# Altium schematic symbol library MCU_ST_STM32L4.SchLib: 320 symbols (part 3 of 9)
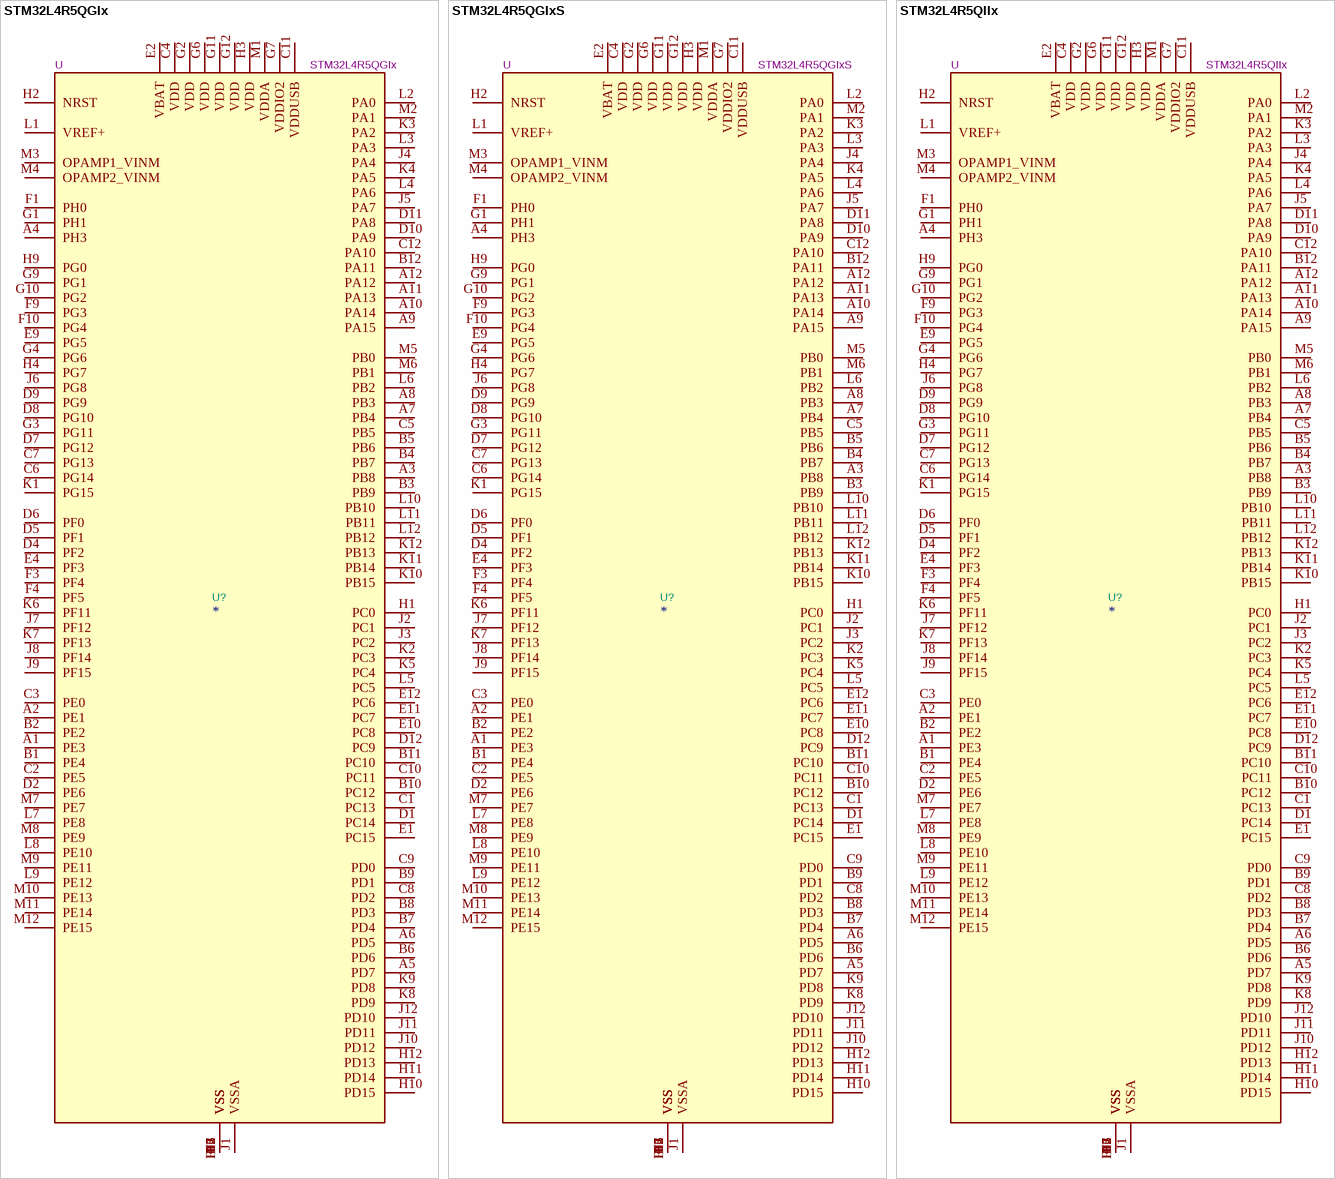
[diagram p65: symbols STM32L4R5QGIx to STM32L4R5QIIx]

## STM32L4R5QGIxS
designator U?  value STM32L4R5QGIxS  Reference: U
STMicroelectronics Arm Cortex-M4 MCU, 1024KB flash, 640KB RAM, 120 MHz, 1.71-3.6V, 110 GPIO, UFBGA132; ki_keywords: Arm Cortex-M4 STM32L4+ STM32L4R5/S5; ki_fp_filters: UFBGA*7x7mm*Layout12x12*P0.5mm*; Footprint: Package_BGA:UFBGA-132_7x7mm_Layout12x12_P0.5mm; Datasheet: https://www.st.com/resource/en/datasheet/stm32l4r5qg.pdf; Description_: STMicroelectronics Arm Cortex-M4 MCU, 1024KB flash, 640KB RAM, 120 MHz, 1.71-3.6V, 110 GPIO, UFBGA132
pins: A1 PE3, A2 PE1, A3 PB8, A4 PH3, A5 PD7, A6 PD5, A7 PB4, A8 PB3, A9 PA15, A10 PA14, A11 PA13, A12 PA12, B1 PE4, B2 PE2, B3 PB9, B4 PB7, B5 PB6, B6 PD6, B7 PD4, B8 PD3, B9 PD1, B10 PC12, B11 PC10, B12 PA11, C1 PC13, C2 PE5, C3 PE0, C4 VDD, C5 PB5, C6 PG14, C7 PG13, C8 PD2, C9 PD0, C10 PC11, C11 VDDUSB, C12 PA10, D1 PC14, D2 PE6, D3 VSS, D4 PF2, D5 PF1, D6 PF0, D7 PG12, D8 PG10, D9 PG9, D10 PA9, D11 PA8, D12 PC9, E1 PC15, E2 VBAT, E3 VSS, E4 PF3, E9 PG5, E10 PC8, E11 PC7, E12 PC6, F1 PH0, F2 VSS, F3 PF4, F4 PF5, F6 VSS, F7 VSS, F9 PG3, F10 PG4, F11 VSS, F12 VSS, G1 PH1, G2 VDD, G3 PG11, G4 PG6, G6 VDD, G7 VDDIO2, G9 PG1, G10 PG2, G11 VDD, G12 VDD, H1 PC0, H2 NRST, H3 VDD, H4 PG7, H9 PG0, H10 PD15, H11 PD14, H12 PD13, J1 VSSA, J2 PC1, J3 PC2, J4 PA4, J5 PA7, J6 PG8, J7 PF12, J8 PF14, J9 PF15, J10 PD12, J11 PD11, J12 PD10, K1 PG15, K2 PC3, K3 PA2, K4 PA5, K5 PC4, K6 PF11, K7 PF13, K8 PD9, K9 PD8, K10 PB15, K11 PB14, K12 PB13, L1 VREF+, L2 PA0, L3 PA3, L4 PA6, L5 PC5, L6 PB2, L7 PE8, L8 PE10, L9 PE12, L10 PB10, L11 PB11, L12 PB12, M1 VDDA, M2 PA1, M3 OPAMP1_VINM, M4 OPAMP2_VINM, M5 PB0, M6 PB1, M7 PE7, M8 PE9, M9 PE11, M10 PE13, M11 PE14, M12 PE15

## STM32L4R5QIIx
designator U?  value STM32L4R5QIIx  Reference: U
STMicroelectronics Arm Cortex-M4 MCU, 2048KB flash, 640KB RAM, 120 MHz, 1.71-3.6V, 110 GPIO, UFBGA132; ki_keywords: Arm Cortex-M4 STM32L4+ STM32L4R5/S5; ki_fp_filters: UFBGA*7x7mm*Layout12x12*P0.5mm*; Footprint: Package_BGA:UFBGA-132_7x7mm_Layout12x12_P0.5mm; Datasheet: https://www.st.com/resource/en/datasheet/stm32l4r5qi.pdf; Description_: STMicroelectronics Arm Cortex-M4 MCU, 2048KB flash, 640KB RAM, 120 MHz, 1.71-3.6V, 110 GPIO, UFBGA132
pins: A1 PE3, A2 PE1, A3 PB8, A4 PH3, A5 PD7, A6 PD5, A7 PB4, A8 PB3, A9 PA15, A10 PA14, A11 PA13, A12 PA12, B1 PE4, B2 PE2, B3 PB9, B4 PB7, B5 PB6, B6 PD6, B7 PD4, B8 PD3, B9 PD1, B10 PC12, B11 PC10, B12 PA11, C1 PC13, C2 PE5, C3 PE0, C4 VDD, C5 PB5, C6 PG14, C7 PG13, C8 PD2, C9 PD0, C10 PC11, C11 VDDUSB, C12 PA10, D1 PC14, D2 PE6, D3 VSS, D4 PF2, D5 PF1, D6 PF0, D7 PG12, D8 PG10, D9 PG9, D10 PA9, D11 PA8, D12 PC9, E1 PC15, E2 VBAT, E3 VSS, E4 PF3, E9 PG5, E10 PC8, E11 PC7, E12 PC6, F1 PH0, F2 VSS, F3 PF4, F4 PF5, F6 VSS, F7 VSS, F9 PG3, F10 PG4, F11 VSS, F12 VSS, G1 PH1, G2 VDD, G3 PG11, G4 PG6, G6 VDD, G7 VDDIO2, G9 PG1, G10 PG2, G11 VDD, G12 VDD, H1 PC0, H2 NRST, H3 VDD, H4 PG7, H9 PG0, H10 PD15, H11 PD14, H12 PD13, J1 VSSA, J2 PC1, J3 PC2, J4 PA4, J5 PA7, J6 PG8, J7 PF12, J8 PF14, J9 PF15, J10 PD12, J11 PD11, J12 PD10, K1 PG15, K2 PC3, K3 PA2, K4 PA5, K5 PC4, K6 PF11, K7 PF13, K8 PD9, K9 PD8, K10 PB15, K11 PB14, K12 PB13, L1 VREF+, L2 PA0, L3 PA3, L4 PA6, L5 PC5, L6 PB2, L7 PE8, L8 PE10, L9 PE12, L10 PB10, L11 PB11, L12 PB12, M1 VDDA, M2 PA1, M3 OPAMP1_VINM, M4 OPAMP2_VINM, M5 PB0, M6 PB1, M7 PE7, M8 PE9, M9 PE11, M10 PE13, M11 PE14, M12 PE15

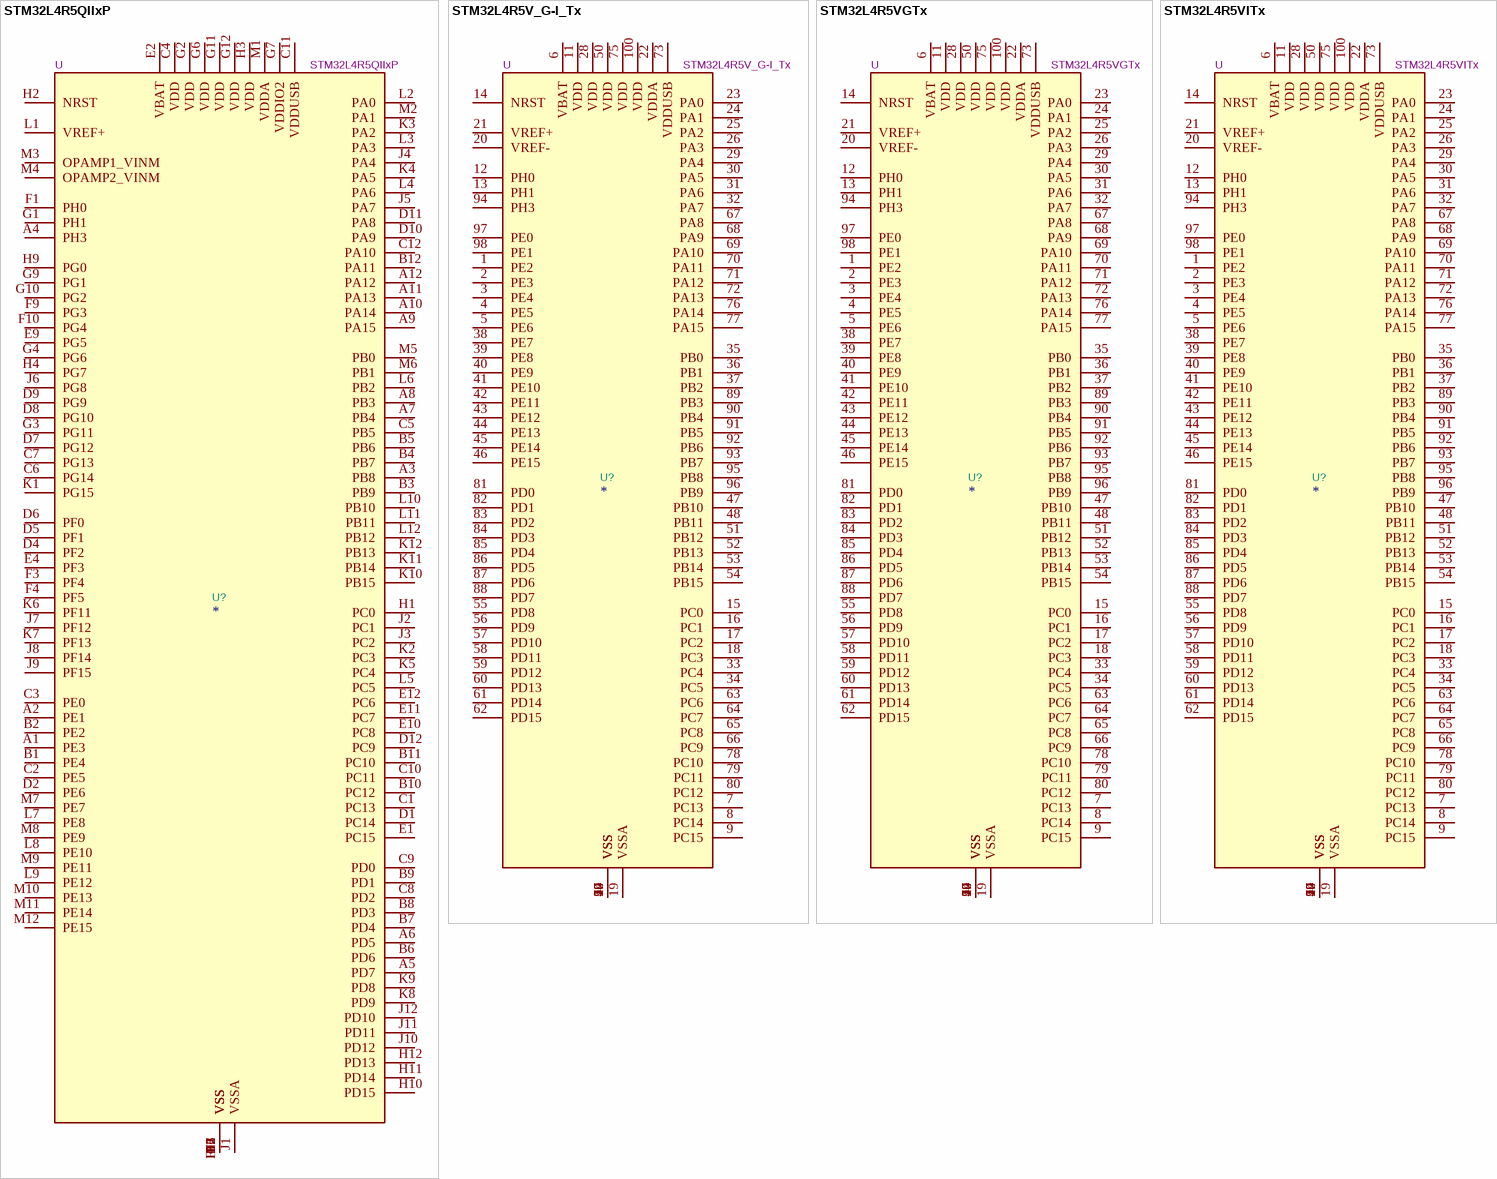
[diagram p18: symbols STM32L4R5QIIxP to STM32L4R5VITx]

## STM32L4R5QIIxP
designator U?  value STM32L4R5QIIxP  Reference: U
STMicroelectronics Arm Cortex-M4 MCU, 2048KB flash, 640KB RAM, 120 MHz, 1.71-3.6V, 110 GPIO, UFBGA132; ki_keywords: Arm Cortex-M4 STM32L4+ STM32L4R5/S5; ki_fp_filters: UFBGA*7x7mm*Layout12x12*P0.5mm*; Footprint: Package_BGA:UFBGA-132_7x7mm_Layout12x12_P0.5mm; Datasheet: https://www.st.com/resource/en/datasheet/stm32l4r5qi.pdf; Description_: STMicroelectronics Arm Cortex-M4 MCU, 2048KB flash, 640KB RAM, 120 MHz, 1.71-3.6V, 110 GPIO, UFBGA132
pins: A1 PE3, A2 PE1, A3 PB8, A4 PH3, A5 PD7, A6 PD5, A7 PB4, A8 PB3, A9 PA15, A10 PA14, A11 PA13, A12 PA12, B1 PE4, B2 PE2, B3 PB9, B4 PB7, B5 PB6, B6 PD6, B7 PD4, B8 PD3, B9 PD1, B10 PC12, B11 PC10, B12 PA11, C1 PC13, C2 PE5, C3 PE0, C4 VDD, C5 PB5, C6 PG14, C7 PG13, C8 PD2, C9 PD0, C10 PC11, C11 VDDUSB, C12 PA10, D1 PC14, D2 PE6, D3 VSS, D4 PF2, D5 PF1, D6 PF0, D7 PG12, D8 PG10, D9 PG9, D10 PA9, D11 PA8, D12 PC9, E1 PC15, E2 VBAT, E3 VSS, E4 PF3, E9 PG5, E10 PC8, E11 PC7, E12 PC6, F1 PH0, F2 VSS, F3 PF4, F4 PF5, F6 VSS, F7 VSS, F9 PG3, F10 PG4, F11 VSS, F12 VSS, G1 PH1, G2 VDD, G3 PG11, G4 PG6, G6 VDD, G7 VDDIO2, G9 PG1, G10 PG2, G11 VDD, G12 VDD, H1 PC0, H2 NRST, H3 VDD, H4 PG7, H9 PG0, H10 PD15, H11 PD14, H12 PD13, J1 VSSA, J2 PC1, J3 PC2, J4 PA4, J5 PA7, J6 PG8, J7 PF12, J8 PF14, J9 PF15, J10 PD12, J11 PD11, J12 PD10, K1 PG15, K2 PC3, K3 PA2, K4 PA5, K5 PC4, K6 PF11, K7 PF13, K8 PD9, K9 PD8, K10 PB15, K11 PB14, K12 PB13, L1 VREF+, L2 PA0, L3 PA3, L4 PA6, L5 PC5, L6 PB2, L7 PE8, L8 PE10, L9 PE12, L10 PB10, L11 PB11, L12 PB12, M1 VDDA, M2 PA1, M3 OPAMP1_VINM, M4 OPAMP2_VINM, M5 PB0, M6 PB1, M7 PE7, M8 PE9, M9 PE11, M10 PE13, M11 PE14, M12 PE15

## STM32L4R5V_G-I_Tx
designator U?  value STM32L4R5V_G-I_Tx  Reference: U
STMicroelectronics Arm Cortex-M4 MCU, 1024-2048KB flash, 640KB RAM, 120 MHz, 1.71-3.6V, 83 GPIO, LQFP100; ki_keywords: Arm Cortex-M4 STM32L4+ STM32L4R5/S5; ki_fp_filters: LQFP*14x14mm*P0.5mm*; Footprint: Package_QFP:LQFP-100_14x14mm_P0.5mm; Datasheet: https://www.st.com/resource/en/datasheet/stm32l4r5vg.pdf; Description_: STMicroelectronics Arm Cortex-M4 MCU, 1024-2048KB flash, 640KB RAM, 120 MHz, 1.71-3.6V, 83 GPIO, LQFP100
pins: 1 PE2, 2 PE3, 3 PE4, 4 PE5, 5 PE6, 6 VBAT, 7 PC13, 8 PC14, 9 PC15, 10 VSS, 11 VDD, 12 PH0, 13 PH1, 14 NRST, 15 PC0, 16 PC1, 17 PC2, 18 PC3, 19 VSSA, 20 VREF-, 21 VREF+, 22 VDDA, 23 PA0, 24 PA1, 25 PA2, 26 PA3, 27 VSS, 28 VDD, 29 PA4, 30 PA5, 31 PA6, 32 PA7, 33 PC4, 34 PC5, 35 PB0, 36 PB1, 37 PB2, 38 PE7, 39 PE8, 40 PE9, 41 PE10, 42 PE11, 43 PE12, 44 PE13, 45 PE14, 46 PE15, 47 PB10, 48 PB11, 49 VSS, 50 VDD, 51 PB12, 52 PB13, 53 PB14, 54 PB15, 55 PD8, 56 PD9, 57 PD10, 58 PD11, 59 PD12, 60 PD13, 61 PD14, 62 PD15, 63 PC6, 64 PC7, 65 PC8, 66 PC9, 67 PA8, 68 PA9, 69 PA10, 70 PA11, 71 PA12, 72 PA13, 73 VDDUSB, 74 VSS, 75 VDD, 76 PA14, 77 PA15, 78 PC10, 79 PC11, 80 PC12, 81 PD0, 82 PD1, 83 PD2, 84 PD3, 85 PD4, 86 PD5, 87 PD6, 88 PD7, 89 PB3, 90 PB4, 91 PB5, 92 PB6, 93 PB7, 94 PH3, 95 PB8, 96 PB9, 97 PE0, 98 PE1, 99 VSS, 100 VDD

## STM32L4R5VGTx
designator U?  value STM32L4R5VGTx  Reference: U
STMicroelectronics Arm Cortex-M4 MCU, 1024KB flash, 640KB RAM, 120 MHz, 1.71-3.6V, 83 GPIO, LQFP100; ki_keywords: Arm Cortex-M4 STM32L4+ STM32L4R5/S5; ki_fp_filters: LQFP*14x14mm*P0.5mm*; Footprint: Package_QFP:LQFP-100_14x14mm_P0.5mm; Datasheet: https://www.st.com/resource/en/datasheet/stm32l4r5vg.pdf; Description_: STMicroelectronics Arm Cortex-M4 MCU, 1024KB flash, 640KB RAM, 120 MHz, 1.71-3.6V, 83 GPIO, LQFP100
pins: 1 PE2, 2 PE3, 3 PE4, 4 PE5, 5 PE6, 6 VBAT, 7 PC13, 8 PC14, 9 PC15, 10 VSS, 11 VDD, 12 PH0, 13 PH1, 14 NRST, 15 PC0, 16 PC1, 17 PC2, 18 PC3, 19 VSSA, 20 VREF-, 21 VREF+, 22 VDDA, 23 PA0, 24 PA1, 25 PA2, 26 PA3, 27 VSS, 28 VDD, 29 PA4, 30 PA5, 31 PA6, 32 PA7, 33 PC4, 34 PC5, 35 PB0, 36 PB1, 37 PB2, 38 PE7, 39 PE8, 40 PE9, 41 PE10, 42 PE11, 43 PE12, 44 PE13, 45 PE14, 46 PE15, 47 PB10, 48 PB11, 49 VSS, 50 VDD, 51 PB12, 52 PB13, 53 PB14, 54 PB15, 55 PD8, 56 PD9, 57 PD10, 58 PD11, 59 PD12, 60 PD13, 61 PD14, 62 PD15, 63 PC6, 64 PC7, 65 PC8, 66 PC9, 67 PA8, 68 PA9, 69 PA10, 70 PA11, 71 PA12, 72 PA13, 73 VDDUSB, 74 VSS, 75 VDD, 76 PA14, 77 PA15, 78 PC10, 79 PC11, 80 PC12, 81 PD0, 82 PD1, 83 PD2, 84 PD3, 85 PD4, 86 PD5, 87 PD6, 88 PD7, 89 PB3, 90 PB4, 91 PB5, 92 PB6, 93 PB7, 94 PH3, 95 PB8, 96 PB9, 97 PE0, 98 PE1, 99 VSS, 100 VDD

## STM32L4R5VITx
designator U?  value STM32L4R5VITx  Reference: U
STMicroelectronics Arm Cortex-M4 MCU, 2048KB flash, 640KB RAM, 120 MHz, 1.71-3.6V, 83 GPIO, LQFP100; ki_keywords: Arm Cortex-M4 STM32L4+ STM32L4R5/S5; ki_fp_filters: LQFP*14x14mm*P0.5mm*; Footprint: Package_QFP:LQFP-100_14x14mm_P0.5mm; Datasheet: https://www.st.com/resource/en/datasheet/stm32l4r5vi.pdf; Description_: STMicroelectronics Arm Cortex-M4 MCU, 2048KB flash, 640KB RAM, 120 MHz, 1.71-3.6V, 83 GPIO, LQFP100
pins: 1 PE2, 2 PE3, 3 PE4, 4 PE5, 5 PE6, 6 VBAT, 7 PC13, 8 PC14, 9 PC15, 10 VSS, 11 VDD, 12 PH0, 13 PH1, 14 NRST, 15 PC0, 16 PC1, 17 PC2, 18 PC3, 19 VSSA, 20 VREF-, 21 VREF+, 22 VDDA, 23 PA0, 24 PA1, 25 PA2, 26 PA3, 27 VSS, 28 VDD, 29 PA4, 30 PA5, 31 PA6, 32 PA7, 33 PC4, 34 PC5, 35 PB0, 36 PB1, 37 PB2, 38 PE7, 39 PE8, 40 PE9, 41 PE10, 42 PE11, 43 PE12, 44 PE13, 45 PE14, 46 PE15, 47 PB10, 48 PB11, 49 VSS, 50 VDD, 51 PB12, 52 PB13, 53 PB14, 54 PB15, 55 PD8, 56 PD9, 57 PD10, 58 PD11, 59 PD12, 60 PD13, 61 PD14, 62 PD15, 63 PC6, 64 PC7, 65 PC8, 66 PC9, 67 PA8, 68 PA9, 69 PA10, 70 PA11, 71 PA12, 72 PA13, 73 VDDUSB, 74 VSS, 75 VDD, 76 PA14, 77 PA15, 78 PC10, 79 PC11, 80 PC12, 81 PD0, 82 PD1, 83 PD2, 84 PD3, 85 PD4, 86 PD5, 87 PD6, 88 PD7, 89 PB3, 90 PB4, 91 PB5, 92 PB6, 93 PB7, 94 PH3, 95 PB8, 96 PB9, 97 PE0, 98 PE1, 99 VSS, 100 VDD

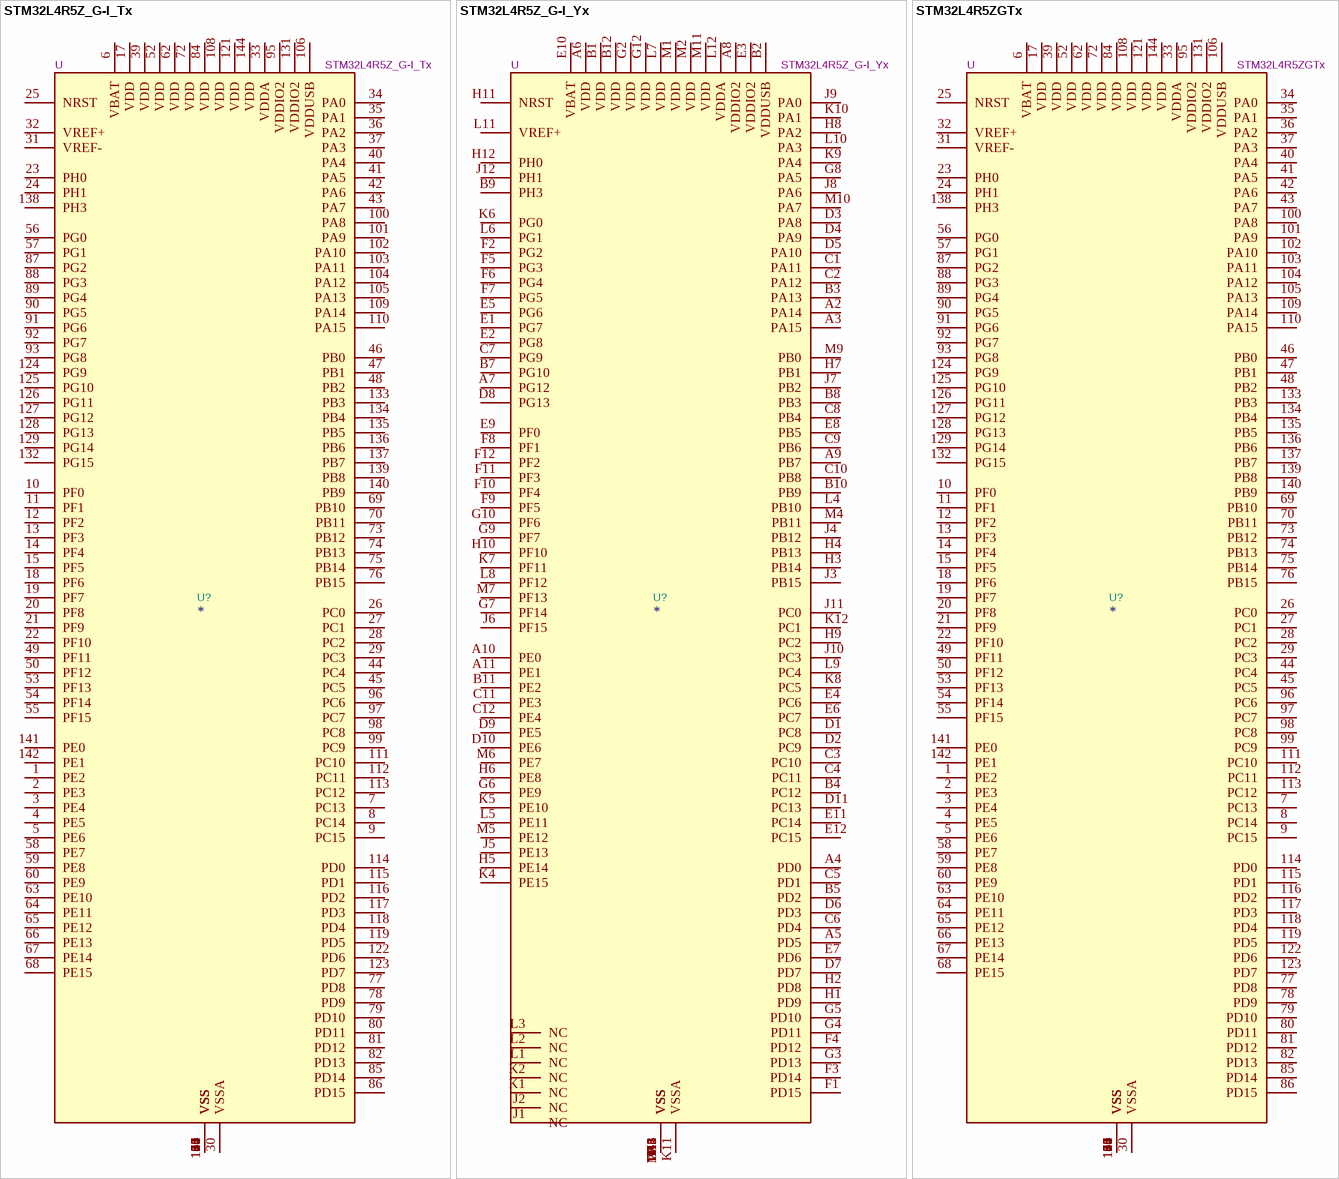
[diagram p19: symbols STM32L4R5Z_G-I_Tx to STM32L4R5ZGTx]

## STM32L4R5Z_G-I_Tx
designator U?  value STM32L4R5Z_G-I_Tx  Reference: U
STMicroelectronics Arm Cortex-M4 MCU, 1024-2048KB flash, 640KB RAM, 120 MHz, 1.71-3.6V, 115 GPIO, LQFP144; ki_keywords: Arm Cortex-M4 STM32L4+ STM32L4R5/S5; ki_fp_filters: LQFP*20x20mm*P0.5mm*; Footprint: Package_QFP:LQFP-144_20x20mm_P0.5mm; Datasheet: https://www.st.com/resource/en/datasheet/stm32l4r5zg.pdf; Description_: STMicroelectronics Arm Cortex-M4 MCU, 1024-2048KB flash, 640KB RAM, 120 MHz, 1.71-3.6V, 115 GPIO, LQFP144
pins: 1 PE2, 2 PE3, 3 PE4, 4 PE5, 5 PE6, 6 VBAT, 7 PC13, 8 PC14, 9 PC15, 10 PF0, 11 PF1, 12 PF2, 13 PF3, 14 PF4, 15 PF5, 16 VSS, 17 VDD, 18 PF6, 19 PF7, 20 PF8, 21 PF9, 22 PF10, 23 PH0, 24 PH1, 25 NRST, 26 PC0, 27 PC1, 28 PC2, 29 PC3, 30 VSSA, 31 VREF-, 32 VREF+, 33 VDDA, 34 PA0, 35 PA1, 36 PA2, 37 PA3, 38 VSS, 39 VDD, 40 PA4, 41 PA5, 42 PA6, 43 PA7, 44 PC4, 45 PC5, 46 PB0, 47 PB1, 48 PB2, 49 PF11, 50 PF12, 51 VSS, 52 VDD, 53 PF13, 54 PF14, 55 PF15, 56 PG0, 57 PG1, 58 PE7, 59 PE8, 60 PE9, 61 VSS, 62 VDD, 63 PE10, 64 PE11, 65 PE12, 66 PE13, 67 PE14, 68 PE15, 69 PB10, 70 PB11, 71 VSS, 72 VDD, 73 PB12, 74 PB13, 75 PB14, 76 PB15, 77 PD8, 78 PD9, 79 PD10, 80 PD11, 81 PD12, 82 PD13, 83 VSS, 84 VDD, 85 PD14, 86 PD15, 87 PG2, 88 PG3, 89 PG4, 90 PG5, 91 PG6, 92 PG7, 93 PG8, 94 VSS, 95 VDDIO2, 96 PC6, 97 PC7, 98 PC8, 99 PC9, 100 PA8, 101 PA9, 102 PA10, 103 PA11, 104 PA12, 105 PA13, 106 VDDUSB, 107 VSS, 108 VDD, 109 PA14, 110 PA15, 111 PC10, 112 PC11, 113 PC12, 114 PD0, 115 PD1, 116 PD2, 117 PD3, 118 PD4, 119 PD5, 120 VSS, 121 VDD, 122 PD6, 123 PD7, 124 PG9, 125 PG10, 126 PG11, 127 PG12, 128 PG13, 129 PG14, 130 VSS, 131 VDDIO2, 132 PG15, 133 PB3, 134 PB4, 135 PB5, 136 PB6, 137 PB7, 138 PH3, 139 PB8, 140 PB9, 141 PE0, 142 PE1, 143 VSS, 144 VDD

## STM32L4R5Z_G-I_Yx
designator U?  value STM32L4R5Z_G-I_Yx  Reference: U
STMicroelectronics Arm Cortex-M4 MCU, 1024-2048KB flash, 640KB RAM, 120 MHz, 1.71-3.6V, 110 GPIO, WLCSP144; ki_keywords: Arm Cortex-M4 STM32L4+ STM32L4R5/S5; ki_fp_filters: ST*WLCSP*Die470*; Footprint: Package_CSP:ST_WLCSP-144_Die470; Datasheet: https://www.st.com/resource/en/datasheet/stm32l4r5zg.pdf; Description_: STMicroelectronics Arm Cortex-M4 MCU, 1024-2048KB flash, 640KB RAM, 120 MHz, 1.71-3.6V, 110 GPIO, WLCSP144
pins: A1 VSS, A2 PA14, A3 PA15, A4 PD0, A5 PD5, A6 VDD, A7 PG12, A8 VDDIO2, A9 PB7, A10 PE0, A11 PE1, A12 VSS, B1 VDD, B2 VDDUSB, B3 PA13, B4 PC12, B5 PD2, B6 VSS, B7 PG10, B8 PB3, B9 PH3, B10 PB9, B11 PE2, B12 VDD, C1 PA11, C2 PA12, C3 PC10, C4 PC11, C5 PD1, C6 PD4, C7 PG9, C8 PB4, C9 PB6, C10 PB8, C11 PE3, C12 PE4, D1 PC8, D2 PC9, D3 PA8, D4 PA9, D5 PA10, D6 PD3, D7 PD7, D8 PG13, D9 PE5, D10 PE6, D11 PC13, D12 VSS, E1 PG7, E2 PG8, E3 VDDIO2, E4 PC6, E5 PG6, E6 PC7, E7 PD6, E8 PB5, E9 PF0, E10 VBAT, E11 PC14, E12 PC15, F1 PD15, F2 PG2, F3 PD14, F4 PD12, F5 PG3, F6 PG4, F7 PG5, F8 PF1, F9 PF5, F10 PF4, F11 PF3, F12 PF2, G1 VSS, G2 VDD, G3 PD13, G4 PD11, G5 PD10, G6 PE9, G7 PF14, G8 PA5, G9 PF7, G10 PF6, G11 VSS, G12 VDD, H1 PD9, H2 PD8, H3 PB14, H4 PB13, H5 PE14, H6 PE8, H7 PB1, H8 PA2, H9 PC2, H10 PF10, H11 NRST, H12 PH0, J1 NC, J2 NC, J3 PB15, J4 PB12, J5 PE13, J6 PF15, J7 PB2, J8 PA6, J9 PA0, J10 PC3, J11 PC0, J12 PH1, K1 NC, K2 NC, K3 VSS, K4 PE15, K5 PE10, K6 PG0, K7 PF11, K8 PC5, K9 PA4, K10 PA1, K11 VSSA, K12 PC1, L1 NC, L2 NC, L3 NC, L4 PB10, L5 PE11, L6 PG1, L7 VDD, L8 PF12, L9 PC4, L10 PA3, L11 VREF+, L12 VDDA, M1 VDD, M2 VDD, M3 VSS, M4 PB11, M5 PE12, M6 PE7, M7 PF13, M8 VSS, M9 PB0, M10 PA7, M11 VDD, M12 VSS

## STM32L4R5ZGTx
designator U?  value STM32L4R5ZGTx  Reference: U
STMicroelectronics Arm Cortex-M4 MCU, 1024KB flash, 640KB RAM, 120 MHz, 1.71-3.6V, 115 GPIO, LQFP144; ki_keywords: Arm Cortex-M4 STM32L4+ STM32L4R5/S5; ki_fp_filters: LQFP*20x20mm*P0.5mm*; Footprint: Package_QFP:LQFP-144_20x20mm_P0.5mm; Datasheet: https://www.st.com/resource/en/datasheet/stm32l4r5zg.pdf; Description_: STMicroelectronics Arm Cortex-M4 MCU, 1024KB flash, 640KB RAM, 120 MHz, 1.71-3.6V, 115 GPIO, LQFP144
pins: 1 PE2, 2 PE3, 3 PE4, 4 PE5, 5 PE6, 6 VBAT, 7 PC13, 8 PC14, 9 PC15, 10 PF0, 11 PF1, 12 PF2, 13 PF3, 14 PF4, 15 PF5, 16 VSS, 17 VDD, 18 PF6, 19 PF7, 20 PF8, 21 PF9, 22 PF10, 23 PH0, 24 PH1, 25 NRST, 26 PC0, 27 PC1, 28 PC2, 29 PC3, 30 VSSA, 31 VREF-, 32 VREF+, 33 VDDA, 34 PA0, 35 PA1, 36 PA2, 37 PA3, 38 VSS, 39 VDD, 40 PA4, 41 PA5, 42 PA6, 43 PA7, 44 PC4, 45 PC5, 46 PB0, 47 PB1, 48 PB2, 49 PF11, 50 PF12, 51 VSS, 52 VDD, 53 PF13, 54 PF14, 55 PF15, 56 PG0, 57 PG1, 58 PE7, 59 PE8, 60 PE9, 61 VSS, 62 VDD, 63 PE10, 64 PE11, 65 PE12, 66 PE13, 67 PE14, 68 PE15, 69 PB10, 70 PB11, 71 VSS, 72 VDD, 73 PB12, 74 PB13, 75 PB14, 76 PB15, 77 PD8, 78 PD9, 79 PD10, 80 PD11, 81 PD12, 82 PD13, 83 VSS, 84 VDD, 85 PD14, 86 PD15, 87 PG2, 88 PG3, 89 PG4, 90 PG5, 91 PG6, 92 PG7, 93 PG8, 94 VSS, 95 VDDIO2, 96 PC6, 97 PC7, 98 PC8, 99 PC9, 100 PA8, 101 PA9, 102 PA10, 103 PA11, 104 PA12, 105 PA13, 106 VDDUSB, 107 VSS, 108 VDD, 109 PA14, 110 PA15, 111 PC10, 112 PC11, 113 PC12, 114 PD0, 115 PD1, 116 PD2, 117 PD3, 118 PD4, 119 PD5, 120 VSS, 121 VDD, 122 PD6, 123 PD7, 124 PG9, 125 PG10, 126 PG11, 127 PG12, 128 PG13, 129 PG14, 130 VSS, 131 VDDIO2, 132 PG15, 133 PB3, 134 PB4, 135 PB5, 136 PB6, 137 PB7, 138 PH3, 139 PB8, 140 PB9, 141 PE0, 142 PE1, 143 VSS, 144 VDD

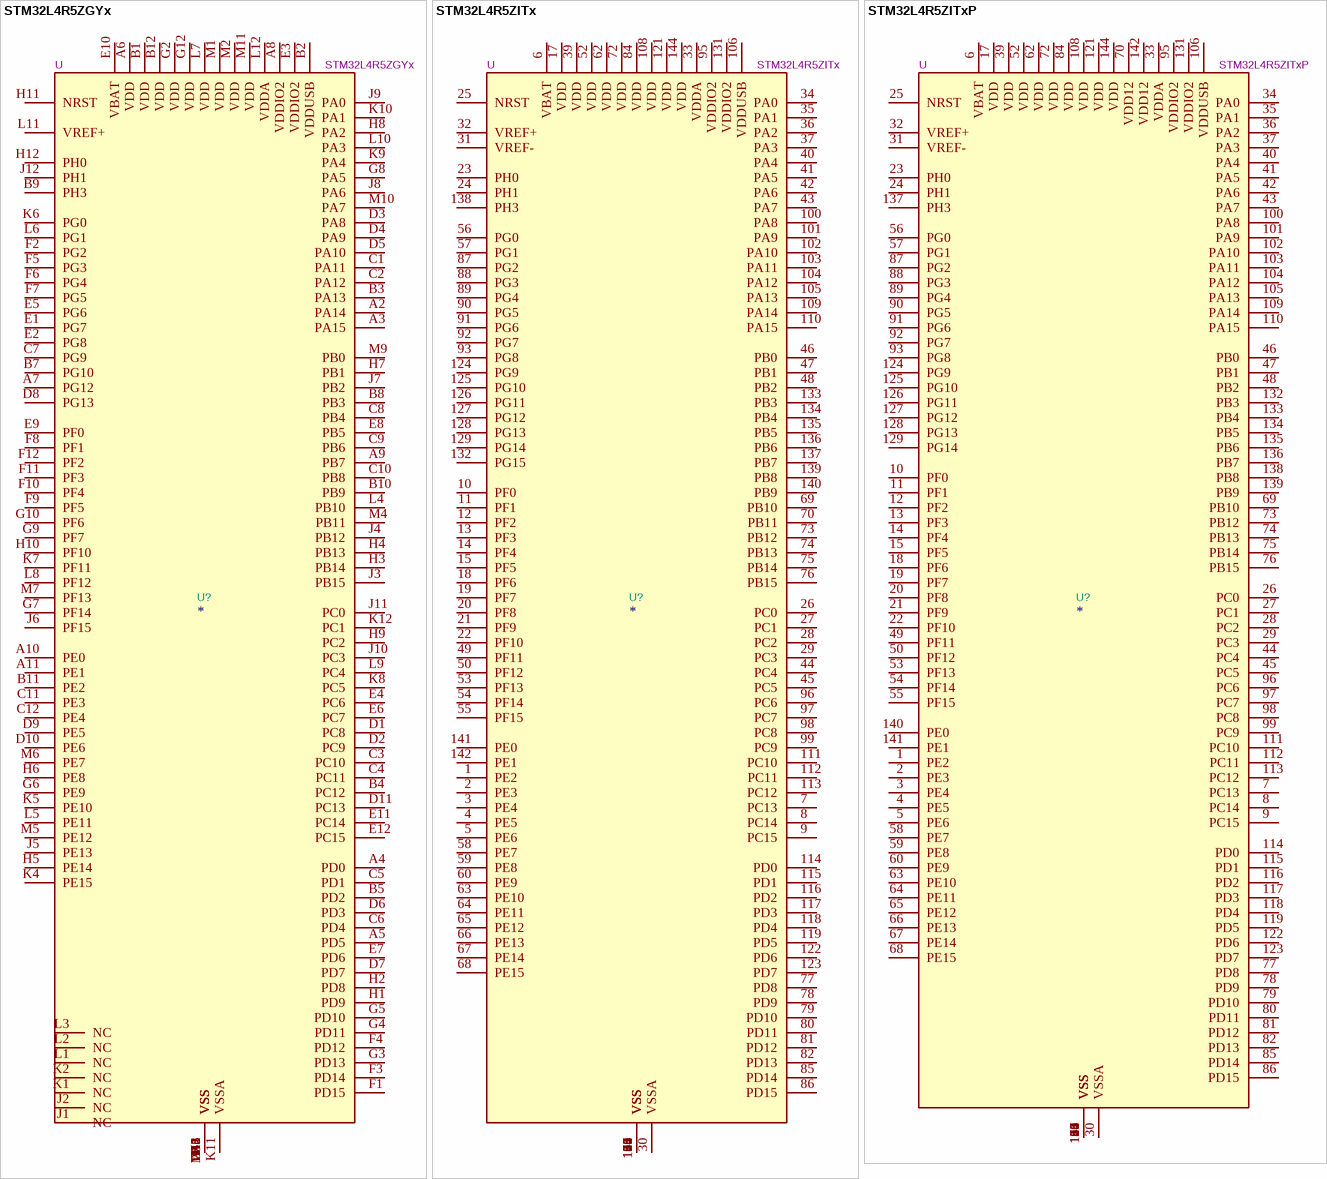
[diagram p20: symbols STM32L4R5ZGYx to STM32L4R5ZITxP]

## STM32L4R5ZGYx
designator U?  value STM32L4R5ZGYx  Reference: U
STMicroelectronics Arm Cortex-M4 MCU, 1024KB flash, 640KB RAM, 120 MHz, 1.71-3.6V, 110 GPIO, WLCSP144; ki_keywords: Arm Cortex-M4 STM32L4+ STM32L4R5/S5; ki_fp_filters: ST*WLCSP*Die470*; Footprint: Package_CSP:ST_WLCSP-144_Die470; Datasheet: https://www.st.com/resource/en/datasheet/stm32l4r5zg.pdf; Description_: STMicroelectronics Arm Cortex-M4 MCU, 1024KB flash, 640KB RAM, 120 MHz, 1.71-3.6V, 110 GPIO, WLCSP144
pins: A1 VSS, A2 PA14, A3 PA15, A4 PD0, A5 PD5, A6 VDD, A7 PG12, A8 VDDIO2, A9 PB7, A10 PE0, A11 PE1, A12 VSS, B1 VDD, B2 VDDUSB, B3 PA13, B4 PC12, B5 PD2, B6 VSS, B7 PG10, B8 PB3, B9 PH3, B10 PB9, B11 PE2, B12 VDD, C1 PA11, C2 PA12, C3 PC10, C4 PC11, C5 PD1, C6 PD4, C7 PG9, C8 PB4, C9 PB6, C10 PB8, C11 PE3, C12 PE4, D1 PC8, D2 PC9, D3 PA8, D4 PA9, D5 PA10, D6 PD3, D7 PD7, D8 PG13, D9 PE5, D10 PE6, D11 PC13, D12 VSS, E1 PG7, E2 PG8, E3 VDDIO2, E4 PC6, E5 PG6, E6 PC7, E7 PD6, E8 PB5, E9 PF0, E10 VBAT, E11 PC14, E12 PC15, F1 PD15, F2 PG2, F3 PD14, F4 PD12, F5 PG3, F6 PG4, F7 PG5, F8 PF1, F9 PF5, F10 PF4, F11 PF3, F12 PF2, G1 VSS, G2 VDD, G3 PD13, G4 PD11, G5 PD10, G6 PE9, G7 PF14, G8 PA5, G9 PF7, G10 PF6, G11 VSS, G12 VDD, H1 PD9, H2 PD8, H3 PB14, H4 PB13, H5 PE14, H6 PE8, H7 PB1, H8 PA2, H9 PC2, H10 PF10, H11 NRST, H12 PH0, J1 NC, J2 NC, J3 PB15, J4 PB12, J5 PE13, J6 PF15, J7 PB2, J8 PA6, J9 PA0, J10 PC3, J11 PC0, J12 PH1, K1 NC, K2 NC, K3 VSS, K4 PE15, K5 PE10, K6 PG0, K7 PF11, K8 PC5, K9 PA4, K10 PA1, K11 VSSA, K12 PC1, L1 NC, L2 NC, L3 NC, L4 PB10, L5 PE11, L6 PG1, L7 VDD, L8 PF12, L9 PC4, L10 PA3, L11 VREF+, L12 VDDA, M1 VDD, M2 VDD, M3 VSS, M4 PB11, M5 PE12, M6 PE7, M7 PF13, M8 VSS, M9 PB0, M10 PA7, M11 VDD, M12 VSS

## STM32L4R5ZITx
designator U?  value STM32L4R5ZITx  Reference: U
STMicroelectronics Arm Cortex-M4 MCU, 2048KB flash, 640KB RAM, 120 MHz, 1.71-3.6V, 115 GPIO, LQFP144; ki_keywords: Arm Cortex-M4 STM32L4+ STM32L4R5/S5; ki_fp_filters: LQFP*20x20mm*P0.5mm*; Footprint: Package_QFP:LQFP-144_20x20mm_P0.5mm; Datasheet: https://www.st.com/resource/en/datasheet/stm32l4r5zi.pdf; Description_: STMicroelectronics Arm Cortex-M4 MCU, 2048KB flash, 640KB RAM, 120 MHz, 1.71-3.6V, 115 GPIO, LQFP144
pins: 1 PE2, 2 PE3, 3 PE4, 4 PE5, 5 PE6, 6 VBAT, 7 PC13, 8 PC14, 9 PC15, 10 PF0, 11 PF1, 12 PF2, 13 PF3, 14 PF4, 15 PF5, 16 VSS, 17 VDD, 18 PF6, 19 PF7, 20 PF8, 21 PF9, 22 PF10, 23 PH0, 24 PH1, 25 NRST, 26 PC0, 27 PC1, 28 PC2, 29 PC3, 30 VSSA, 31 VREF-, 32 VREF+, 33 VDDA, 34 PA0, 35 PA1, 36 PA2, 37 PA3, 38 VSS, 39 VDD, 40 PA4, 41 PA5, 42 PA6, 43 PA7, 44 PC4, 45 PC5, 46 PB0, 47 PB1, 48 PB2, 49 PF11, 50 PF12, 51 VSS, 52 VDD, 53 PF13, 54 PF14, 55 PF15, 56 PG0, 57 PG1, 58 PE7, 59 PE8, 60 PE9, 61 VSS, 62 VDD, 63 PE10, 64 PE11, 65 PE12, 66 PE13, 67 PE14, 68 PE15, 69 PB10, 70 PB11, 71 VSS, 72 VDD, 73 PB12, 74 PB13, 75 PB14, 76 PB15, 77 PD8, 78 PD9, 79 PD10, 80 PD11, 81 PD12, 82 PD13, 83 VSS, 84 VDD, 85 PD14, 86 PD15, 87 PG2, 88 PG3, 89 PG4, 90 PG5, 91 PG6, 92 PG7, 93 PG8, 94 VSS, 95 VDDIO2, 96 PC6, 97 PC7, 98 PC8, 99 PC9, 100 PA8, 101 PA9, 102 PA10, 103 PA11, 104 PA12, 105 PA13, 106 VDDUSB, 107 VSS, 108 VDD, 109 PA14, 110 PA15, 111 PC10, 112 PC11, 113 PC12, 114 PD0, 115 PD1, 116 PD2, 117 PD3, 118 PD4, 119 PD5, 120 VSS, 121 VDD, 122 PD6, 123 PD7, 124 PG9, 125 PG10, 126 PG11, 127 PG12, 128 PG13, 129 PG14, 130 VSS, 131 VDDIO2, 132 PG15, 133 PB3, 134 PB4, 135 PB5, 136 PB6, 137 PB7, 138 PH3, 139 PB8, 140 PB9, 141 PE0, 142 PE1, 143 VSS, 144 VDD

## STM32L4R5ZITxP
designator U?  value STM32L4R5ZITxP  Reference: U
STMicroelectronics Arm Cortex-M4 MCU, 2048KB flash, 640KB RAM, 120 MHz, 1.71-3.6V, 113 GPIO, LQFP144; ki_keywords: Arm Cortex-M4 STM32L4+ STM32L4R5/S5; ki_fp_filters: LQFP*20x20mm*P0.5mm*; Footprint: Package_QFP:LQFP-144_20x20mm_P0.5mm; Datasheet: https://www.st.com/resource/en/datasheet/stm32l4r5zi.pdf; Description_: STMicroelectronics Arm Cortex-M4 MCU, 2048KB flash, 640KB RAM, 120 MHz, 1.71-3.6V, 113 GPIO, LQFP144
pins: 1 PE2, 2 PE3, 3 PE4, 4 PE5, 5 PE6, 6 VBAT, 7 PC13, 8 PC14, 9 PC15, 10 PF0, 11 PF1, 12 PF2, 13 PF3, 14 PF4, 15 PF5, 16 VSS, 17 VDD, 18 PF6, 19 PF7, 20 PF8, 21 PF9, 22 PF10, 23 PH0, 24 PH1, 25 NRST, 26 PC0, 27 PC1, 28 PC2, 29 PC3, 30 VSSA, 31 VREF-, 32 VREF+, 33 VDDA, 34 PA0, 35 PA1, 36 PA2, 37 PA3, 38 VSS, 39 VDD, 40 PA4, 41 PA5, 42 PA6, 43 PA7, 44 PC4, 45 PC5, 46 PB0, 47 PB1, 48 PB2, 49 PF11, 50 PF12, 51 VSS, 52 VDD, 53 PF13, 54 PF14, 55 PF15, 56 PG0, 57 PG1, 58 PE7, 59 PE8, 60 PE9, 61 VSS, 62 VDD, 63 PE10, 64 PE11, 65 PE12, 66 PE13, 67 PE14, 68 PE15, 69 PB10, 70 VDD12, 71 VSS, 72 VDD, 73 PB12, 74 PB13, 75 PB14, 76 PB15, 77 PD8, 78 PD9, 79 PD10, 80 PD11, 81 PD12, 82 PD13, 83 VSS, 84 VDD, 85 PD14, 86 PD15, 87 PG2, 88 PG3, 89 PG4, 90 PG5, 91 PG6, 92 PG7, 93 PG8, 94 VSS, 95 VDDIO2, 96 PC6, 97 PC7, 98 PC8, 99 PC9, 100 PA8, 101 PA9, 102 PA10, 103 PA11, 104 PA12, 105 PA13, 106 VDDUSB, 107 VSS, 108 VDD, 109 PA14, 110 PA15, 111 PC10, 112 PC11, 113 PC12, 114 PD0, 115 PD1, 116 PD2, 117 PD3, 118 PD4, 119 PD5, 120 VSS, 121 VDD, 122 PD6, 123 PD7, 124 PG9, 125 PG10, 126 PG11, 127 PG12, 128 PG13, 129 PG14, 130 VSS, 131 VDDIO2, 132 PB3, 133 PB4, 134 PB5, 135 PB6, 136 PB7, 137 PH3, 138 PB8, 139 PB9, 140 PE0, 141 PE1, 142 VDD12, 143 VSS, 144 VDD

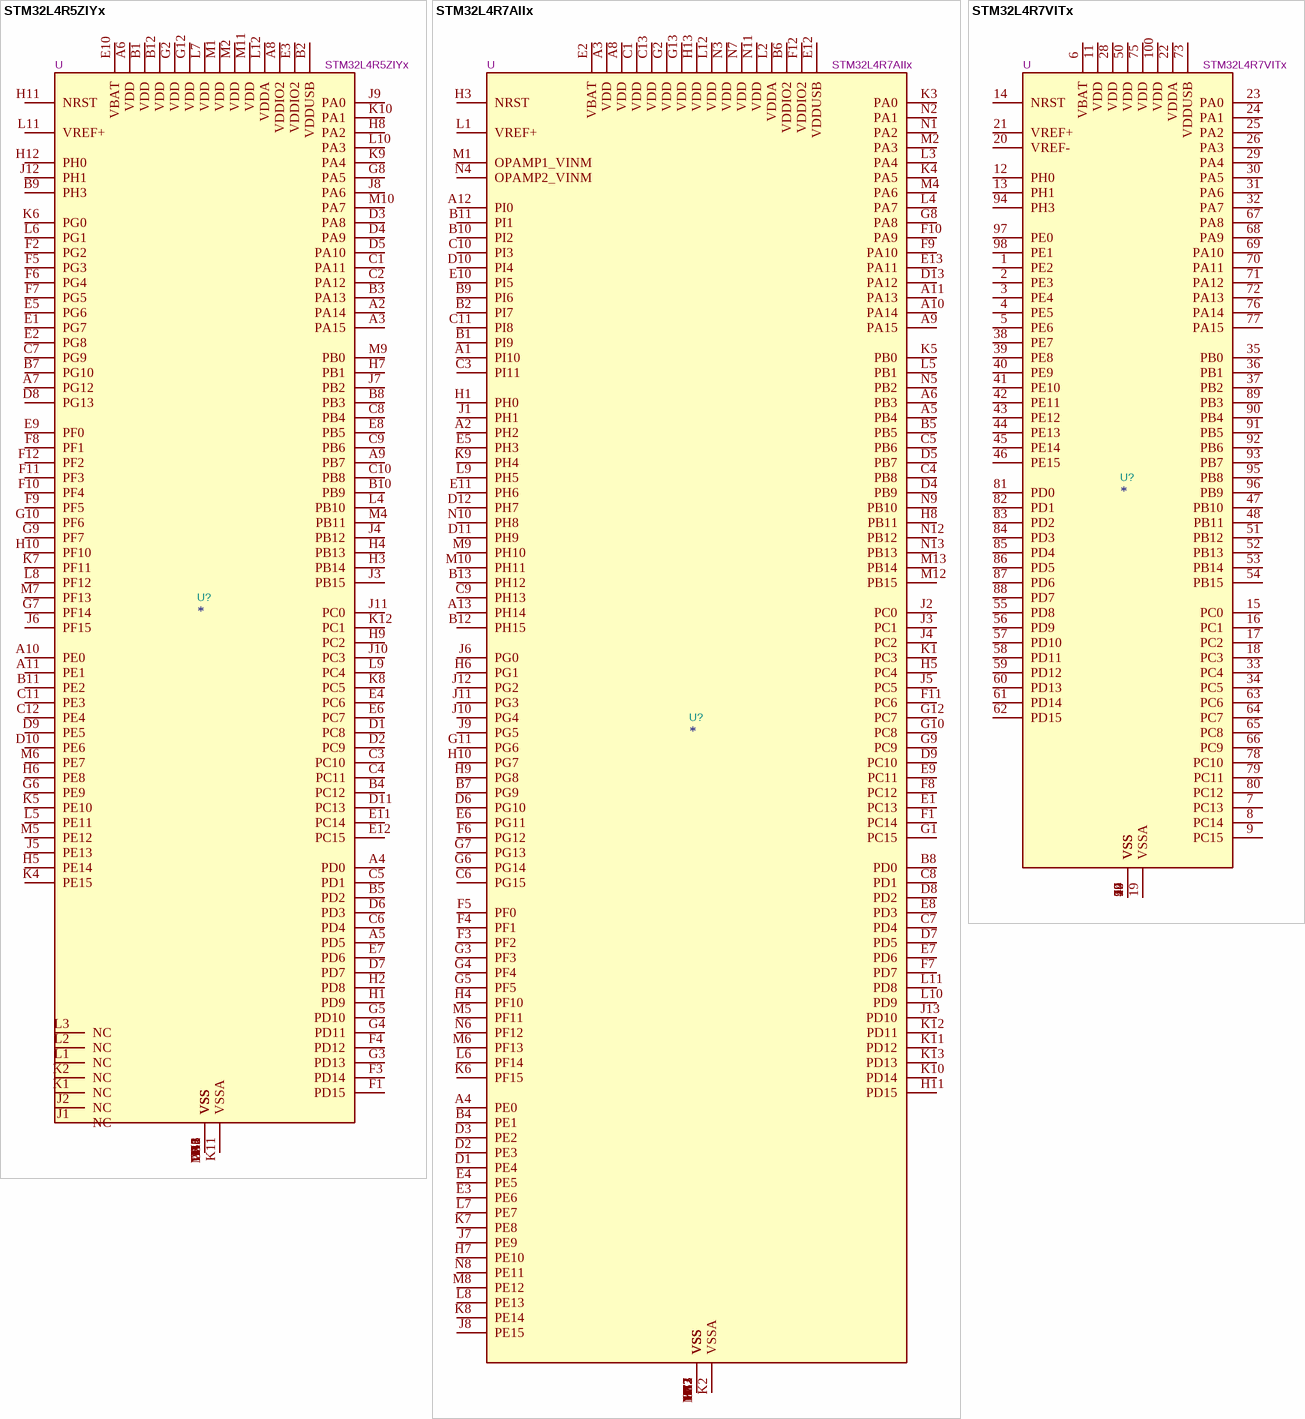
[diagram p21: symbols STM32L4R5ZIYx to STM32L4R7VITx]

## STM32L4R5ZIYx
designator U?  value STM32L4R5ZIYx  Reference: U
STMicroelectronics Arm Cortex-M4 MCU, 2048KB flash, 640KB RAM, 120 MHz, 1.71-3.6V, 110 GPIO, WLCSP144; ki_keywords: Arm Cortex-M4 STM32L4+ STM32L4R5/S5; ki_fp_filters: ST*WLCSP*Die470*; Footprint: Package_CSP:ST_WLCSP-144_Die470; Datasheet: https://www.st.com/resource/en/datasheet/stm32l4r5zi.pdf; Description_: STMicroelectronics Arm Cortex-M4 MCU, 2048KB flash, 640KB RAM, 120 MHz, 1.71-3.6V, 110 GPIO, WLCSP144
pins: A1 VSS, A2 PA14, A3 PA15, A4 PD0, A5 PD5, A6 VDD, A7 PG12, A8 VDDIO2, A9 PB7, A10 PE0, A11 PE1, A12 VSS, B1 VDD, B2 VDDUSB, B3 PA13, B4 PC12, B5 PD2, B6 VSS, B7 PG10, B8 PB3, B9 PH3, B10 PB9, B11 PE2, B12 VDD, C1 PA11, C2 PA12, C3 PC10, C4 PC11, C5 PD1, C6 PD4, C7 PG9, C8 PB4, C9 PB6, C10 PB8, C11 PE3, C12 PE4, D1 PC8, D2 PC9, D3 PA8, D4 PA9, D5 PA10, D6 PD3, D7 PD7, D8 PG13, D9 PE5, D10 PE6, D11 PC13, D12 VSS, E1 PG7, E2 PG8, E3 VDDIO2, E4 PC6, E5 PG6, E6 PC7, E7 PD6, E8 PB5, E9 PF0, E10 VBAT, E11 PC14, E12 PC15, F1 PD15, F2 PG2, F3 PD14, F4 PD12, F5 PG3, F6 PG4, F7 PG5, F8 PF1, F9 PF5, F10 PF4, F11 PF3, F12 PF2, G1 VSS, G2 VDD, G3 PD13, G4 PD11, G5 PD10, G6 PE9, G7 PF14, G8 PA5, G9 PF7, G10 PF6, G11 VSS, G12 VDD, H1 PD9, H2 PD8, H3 PB14, H4 PB13, H5 PE14, H6 PE8, H7 PB1, H8 PA2, H9 PC2, H10 PF10, H11 NRST, H12 PH0, J1 NC, J2 NC, J3 PB15, J4 PB12, J5 PE13, J6 PF15, J7 PB2, J8 PA6, J9 PA0, J10 PC3, J11 PC0, J12 PH1, K1 NC, K2 NC, K3 VSS, K4 PE15, K5 PE10, K6 PG0, K7 PF11, K8 PC5, K9 PA4, K10 PA1, K11 VSSA, K12 PC1, L1 NC, L2 NC, L3 NC, L4 PB10, L5 PE11, L6 PG1, L7 VDD, L8 PF12, L9 PC4, L10 PA3, L11 VREF+, L12 VDDA, M1 VDD, M2 VDD, M3 VSS, M4 PB11, M5 PE12, M6 PE7, M7 PF13, M8 VSS, M9 PB0, M10 PA7, M11 VDD, M12 VSS

## STM32L4R7AIIx
designator U?  value STM32L4R7AIIx  Reference: U
STMicroelectronics Arm Cortex-M4 MCU, 2048KB flash, 640KB RAM, 120 MHz, 1.71-3.6V, 136 GPIO, UFBGA169; ki_keywords: Arm Cortex-M4 STM32L4+ STM32L4R7/S7; ki_fp_filters: UFBGA*7x7mm*Layout13x13*P0.5mm*; Footprint: Package_BGA:UFBGA-169_7x7mm_Layout13x13_P0.5mm; Datasheet: https://www.st.com/resource/en/datasheet/stm32l4r7ai.pdf; Description_: STMicroelectronics Arm Cortex-M4 MCU, 2048KB flash, 640KB RAM, 120 MHz, 1.71-3.6V, 136 GPIO, UFBGA169
pins: A1 PI10, A2 PH2, A3 VDD, A4 PE0, A5 PB4, A6 PB3, A7 VSS, A8 VDD, A9 PA15, A10 PA14, A11 PA13, A12 PI0, A13 PH14, B1 PI9, B2 PI7, B3 VSS, B4 PE1, B5 PB5, B6 VDDIO2, B7 PG9, B8 PD0, B9 PI6, B10 PI2, B11 PI1, B12 PH15, B13 PH12, C1 VDD, C2 VSS, C3 PI11, C4 PB8, C5 PB6, C6 PG15, C7 PD4, C8 PD1, C9 PH13, C10 PI3, C11 PI8, C12 VSS, C13 VDD, D1 PE4, D2 PE3, D3 PE2, D4 PB9, D5 PB7, D6 PG10, D7 PD5, D8 PD2, D9 PC10, D10 PI4, D11 PH9, D12 PH7, D13 PA12, E1 PC13, E2 VBAT, E3 PE6, E4 PE5, E5 PH3, E6 PG11, E7 PD6, E8 PD3, E9 PC11, E10 PI5, E11 PH6, E12 VDDUSB, E13 PA11, F1 PC14, F2 VSS, F3 PF2, F4 PF1, F5 PF0, F6 PG12, F7 PD7, F8 PC12, F9 PA10, F10 PA9, F11 PC6, F12 VDDIO2, F13 VSS, G1 PC15, G2 VDD, G3 PF3, G4 PF4, G5 PF5, G6 PG14, G7 PG13, G8 PA8, G9 PC9, G10 PC8, G11 PG6, G12 PC7, G13 VDD, H1 PH0, H2 VSS, H3 NRST, H4 PF10, H5 PC4, H6 PG1, H7 PE10, H8 PB11, H9 PG8, H10 PG7, H11 PD15, H12 VSS, H13 VDD, J1 PH1, J2 PC0, J3 PC1, J4 PC2, J5 PC5, J6 PG0, J7 PE9, J8 PE15, J9 PG5, J10 PG4, J11 PG3, J12 PG2, J13 PD10, K1 PC3, K2 VSSA, K3 PA0, K4 PA5, K5 PB0, K6 PF15, K7 PE8, K8 PE14, K9 PH4, K10 PD14, K11 PD12, K12 PD11, K13 PD13, L1 VREF+, L2 VDDA, L3 PA4, L4 PA7, L5 PB1, L6 PF14, L7 PE7, L8 PE13, L9 PH5, L10 PD9, L11 PD8, L12 VDD, L13 VSS, M1 OPAMP1_VINM, M2 PA3, M3 VSS, M4 PA6, M5 PF11, M6 PF13, M7 VSS, M8 PE12, M9 PH10, M10 PH11, M11 VSS, M12 PB15, M13 PB14, N1 PA2, N2 PA1, N3 VDD, N4 OPAMP2_VINM, N5 PB2, N6 PF12, N7 VDD, N8 PE11, N9 PB10, N10 PH8, N11 VDD, N12 PB12, N13 PB13

## STM32L4R7VITx
designator U?  value STM32L4R7VITx  Reference: U
STMicroelectronics Arm Cortex-M4 MCU, 2048KB flash, 640KB RAM, 120 MHz, 1.71-3.6V, 83 GPIO, LQFP100; ki_keywords: Arm Cortex-M4 STM32L4+ STM32L4R7/S7; ki_fp_filters: LQFP*14x14mm*P0.5mm*; Footprint: Package_QFP:LQFP-100_14x14mm_P0.5mm; Datasheet: https://www.st.com/resource/en/datasheet/stm32l4r7vi.pdf; Description_: STMicroelectronics Arm Cortex-M4 MCU, 2048KB flash, 640KB RAM, 120 MHz, 1.71-3.6V, 83 GPIO, LQFP100
pins: 1 PE2, 2 PE3, 3 PE4, 4 PE5, 5 PE6, 6 VBAT, 7 PC13, 8 PC14, 9 PC15, 10 VSS, 11 VDD, 12 PH0, 13 PH1, 14 NRST, 15 PC0, 16 PC1, 17 PC2, 18 PC3, 19 VSSA, 20 VREF-, 21 VREF+, 22 VDDA, 23 PA0, 24 PA1, 25 PA2, 26 PA3, 27 VSS, 28 VDD, 29 PA4, 30 PA5, 31 PA6, 32 PA7, 33 PC4, 34 PC5, 35 PB0, 36 PB1, 37 PB2, 38 PE7, 39 PE8, 40 PE9, 41 PE10, 42 PE11, 43 PE12, 44 PE13, 45 PE14, 46 PE15, 47 PB10, 48 PB11, 49 VSS, 50 VDD, 51 PB12, 52 PB13, 53 PB14, 54 PB15, 55 PD8, 56 PD9, 57 PD10, 58 PD11, 59 PD12, 60 PD13, 61 PD14, 62 PD15, 63 PC6, 64 PC7, 65 PC8, 66 PC9, 67 PA8, 68 PA9, 69 PA10, 70 PA11, 71 PA12, 72 PA13, 73 VDDUSB, 74 VSS, 75 VDD, 76 PA14, 77 PA15, 78 PC10, 79 PC11, 80 PC12, 81 PD0, 82 PD1, 83 PD2, 84 PD3, 85 PD4, 86 PD5, 87 PD6, 88 PD7, 89 PB3, 90 PB4, 91 PB5, 92 PB6, 93 PB7, 94 PH3, 95 PB8, 96 PB9, 97 PE0, 98 PE1, 99 VSS, 100 VDD

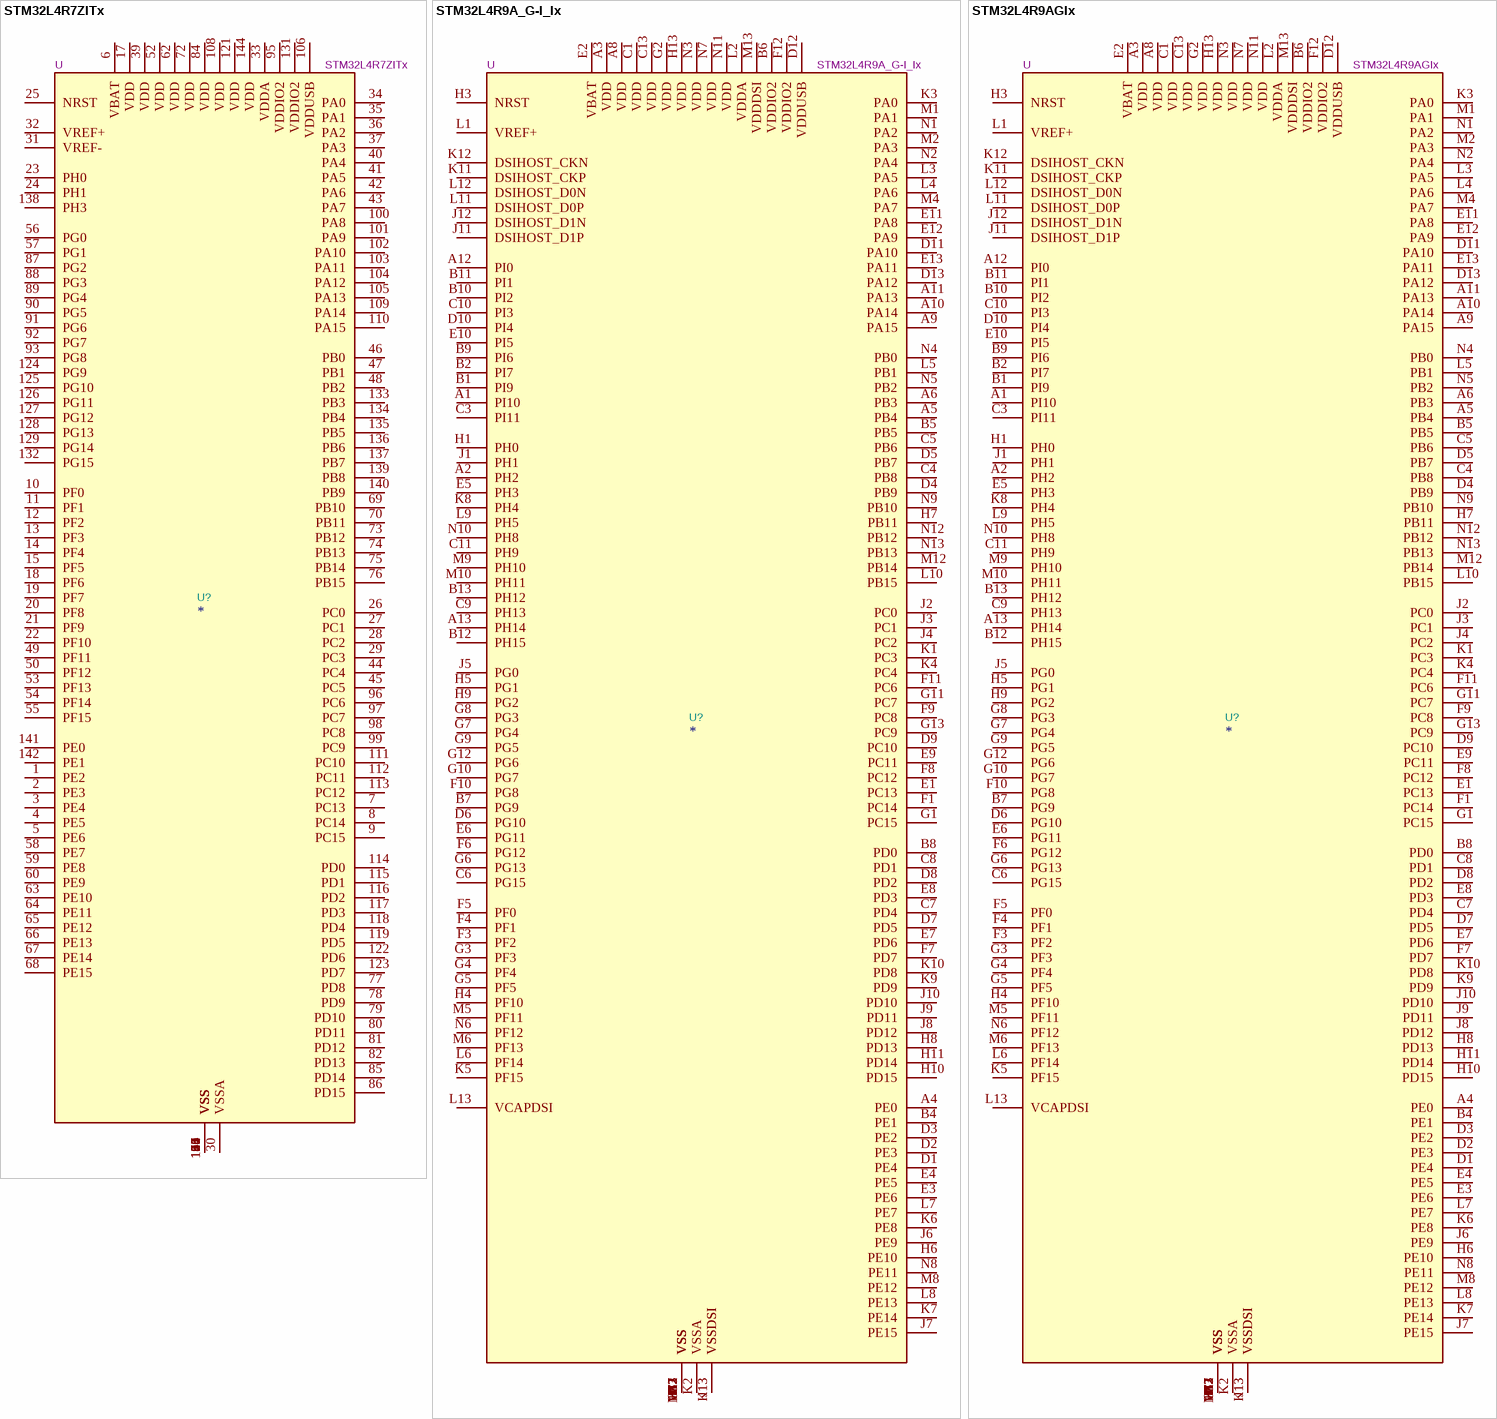
[diagram p22: symbols STM32L4R7ZITx to STM32L4R9AGIx]

## STM32L4R7ZITx
designator U?  value STM32L4R7ZITx  Reference: U
STMicroelectronics Arm Cortex-M4 MCU, 2048KB flash, 640KB RAM, 120 MHz, 1.71-3.6V, 115 GPIO, LQFP144; ki_keywords: Arm Cortex-M4 STM32L4+ STM32L4R7/S7; ki_fp_filters: LQFP*20x20mm*P0.5mm*; Footprint: Package_QFP:LQFP-144_20x20mm_P0.5mm; Datasheet: https://www.st.com/resource/en/datasheet/stm32l4r7zi.pdf; Description_: STMicroelectronics Arm Cortex-M4 MCU, 2048KB flash, 640KB RAM, 120 MHz, 1.71-3.6V, 115 GPIO, LQFP144
pins: 1 PE2, 2 PE3, 3 PE4, 4 PE5, 5 PE6, 6 VBAT, 7 PC13, 8 PC14, 9 PC15, 10 PF0, 11 PF1, 12 PF2, 13 PF3, 14 PF4, 15 PF5, 16 VSS, 17 VDD, 18 PF6, 19 PF7, 20 PF8, 21 PF9, 22 PF10, 23 PH0, 24 PH1, 25 NRST, 26 PC0, 27 PC1, 28 PC2, 29 PC3, 30 VSSA, 31 VREF-, 32 VREF+, 33 VDDA, 34 PA0, 35 PA1, 36 PA2, 37 PA3, 38 VSS, 39 VDD, 40 PA4, 41 PA5, 42 PA6, 43 PA7, 44 PC4, 45 PC5, 46 PB0, 47 PB1, 48 PB2, 49 PF11, 50 PF12, 51 VSS, 52 VDD, 53 PF13, 54 PF14, 55 PF15, 56 PG0, 57 PG1, 58 PE7, 59 PE8, 60 PE9, 61 VSS, 62 VDD, 63 PE10, 64 PE11, 65 PE12, 66 PE13, 67 PE14, 68 PE15, 69 PB10, 70 PB11, 71 VSS, 72 VDD, 73 PB12, 74 PB13, 75 PB14, 76 PB15, 77 PD8, 78 PD9, 79 PD10, 80 PD11, 81 PD12, 82 PD13, 83 VSS, 84 VDD, 85 PD14, 86 PD15, 87 PG2, 88 PG3, 89 PG4, 90 PG5, 91 PG6, 92 PG7, 93 PG8, 94 VSS, 95 VDDIO2, 96 PC6, 97 PC7, 98 PC8, 99 PC9, 100 PA8, 101 PA9, 102 PA10, 103 PA11, 104 PA12, 105 PA13, 106 VDDUSB, 107 VSS, 108 VDD, 109 PA14, 110 PA15, 111 PC10, 112 PC11, 113 PC12, 114 PD0, 115 PD1, 116 PD2, 117 PD3, 118 PD4, 119 PD5, 120 VSS, 121 VDD, 122 PD6, 123 PD7, 124 PG9, 125 PG10, 126 PG11, 127 PG12, 128 PG13, 129 PG14, 130 VSS, 131 VDDIO2, 132 PG15, 133 PB3, 134 PB4, 135 PB5, 136 PB6, 137 PB7, 138 PH3, 139 PB8, 140 PB9, 141 PE0, 142 PE1, 143 VSS, 144 VDD

## STM32L4R9A_G-I_Ix
designator U?  value STM32L4R9A_G-I_Ix  Reference: U
STMicroelectronics Arm Cortex-M4 MCU, 1024-2048KB flash, 640KB RAM, 120 MHz, 1.71-3.6V, 131 GPIO, UFBGA169; ki_keywords: Arm Cortex-M4 STM32L4+ STM32L4R9/S9; ki_fp_filters: UFBGA*7x7mm*Layout13x13*P0.5mm*; Footprint: Package_BGA:UFBGA-169_7x7mm_Layout13x13_P0.5mm; Datasheet: https://www.st.com/resource/en/datasheet/stm32l4r9ag.pdf; Description_: STMicroelectronics Arm Cortex-M4 MCU, 1024-2048KB flash, 640KB RAM, 120 MHz, 1.71-3.6V, 131 GPIO, UFBGA169
pins: A1 PI10, A2 PH2, A3 VDD, A4 PE0, A5 PB4, A6 PB3, A7 VSS, A8 VDD, A9 PA15, A10 PA14, A11 PA13, A12 PI0, A13 PH14, B1 PI9, B2 PI7, B3 VSS, B4 PE1, B5 PB5, B6 VDDIO2, B7 PG9, B8 PD0, B9 PI6, B10 PI2, B11 PI1, B12 PH15, B13 PH12, C1 VDD, C2 VSS, C3 PI11, C4 PB8, C5 PB6, C6 PG15, C7 PD4, C8 PD1, C9 PH13, C10 PI3, C11 PH9, C12 VSS, C13 VDD, D1 PE4, D2 PE3, D3 PE2, D4 PB9, D5 PB7, D6 PG10, D7 PD5, D8 PD2, D9 PC10, D10 PI4, D11 PA10, D12 VDDUSB, D13 PA12, E1 PC13, E2 VBAT, E3 PE6, E4 PE5, E5 PH3, E6 PG11, E7 PD6, E8 PD3, E9 PC11, E10 PI5, E11 PA8, E12 PA9, E13 PA11, F1 PC14, F2 VSS, F3 PF2, F4 PF1, F5 PF0, F6 PG12, F7 PD7, F8 PC12, F9 PC8, F10 PG8, F11 PC6, F12 VDDIO2, F13 VSS, G1 PC15, G2 VDD, G3 PF3, G4 PF4, G5 PF5, G6 PG13, G7 PG4, G8 PG3, G9 PG5, G10 PG7, G11 PC7, G12 PG6, G13 PC9, H1 PH0, H2 VSS, H3 NRST, H4 PF10, H5 PG1, H6 PE10, H7 PB11, H8 PD13, H9 PG2, H10 PD15, H11 PD14, H12 VSS, H13 VDD, J1 PH1, J2 PC0, J3 PC1, J4 PC2, J5 PG0, J6 PE9, J7 PE15, J8 PD12, J9 PD11, J10 PD10, J11 DSIHOST_D1P, J12 DSIHOST_D1N, J13 VSSDSI, K1 PC3, K2 VSSA, K3 PA0, K4 PC4, K5 PF15, K6 PE8, K7 PE14, K8 PH4, K9 PD9, K10 PD8, K11 DSIHOST_CKP, K12 DSIHOST_CKN, K13 VSSDSI, L1 VREF+, L2 VDDA, L3 PA5, L4 PA6, L5 PB1, L6 PF14, L7 PE7, L8 PE13, L9 PH5, L10 PB15, L11 DSIHOST_D0P, L12 DSIHOST_D0N, L13 VCAPDSI, M1 PA1, M2 PA3, M3 VSS, M4 PA7, M5 PF11, M6 PF13, M7 VSS, M8 PE12, M9 PH10, M10 PH11, M11 VSS, M12 PB14, M13 VDDDSI, N1 PA2, N2 PA4, N3 VDD, N4 PB0, N5 PB2, N6 PF12, N7 VDD, N8 PE11, N9 PB10, N10 PH8, N11 VDD, N12 PB12, N13 PB13

## STM32L4R9AGIx
designator U?  value STM32L4R9AGIx  Reference: U
STMicroelectronics Arm Cortex-M4 MCU, 1024KB flash, 640KB RAM, 120 MHz, 1.71-3.6V, 131 GPIO, UFBGA169; ki_keywords: Arm Cortex-M4 STM32L4+ STM32L4R9/S9; ki_fp_filters: UFBGA*7x7mm*Layout13x13*P0.5mm*; Footprint: Package_BGA:UFBGA-169_7x7mm_Layout13x13_P0.5mm; Datasheet: https://www.st.com/resource/en/datasheet/stm32l4r9ag.pdf; Description_: STMicroelectronics Arm Cortex-M4 MCU, 1024KB flash, 640KB RAM, 120 MHz, 1.71-3.6V, 131 GPIO, UFBGA169
pins: A1 PI10, A2 PH2, A3 VDD, A4 PE0, A5 PB4, A6 PB3, A7 VSS, A8 VDD, A9 PA15, A10 PA14, A11 PA13, A12 PI0, A13 PH14, B1 PI9, B2 PI7, B3 VSS, B4 PE1, B5 PB5, B6 VDDIO2, B7 PG9, B8 PD0, B9 PI6, B10 PI2, B11 PI1, B12 PH15, B13 PH12, C1 VDD, C2 VSS, C3 PI11, C4 PB8, C5 PB6, C6 PG15, C7 PD4, C8 PD1, C9 PH13, C10 PI3, C11 PH9, C12 VSS, C13 VDD, D1 PE4, D2 PE3, D3 PE2, D4 PB9, D5 PB7, D6 PG10, D7 PD5, D8 PD2, D9 PC10, D10 PI4, D11 PA10, D12 VDDUSB, D13 PA12, E1 PC13, E2 VBAT, E3 PE6, E4 PE5, E5 PH3, E6 PG11, E7 PD6, E8 PD3, E9 PC11, E10 PI5, E11 PA8, E12 PA9, E13 PA11, F1 PC14, F2 VSS, F3 PF2, F4 PF1, F5 PF0, F6 PG12, F7 PD7, F8 PC12, F9 PC8, F10 PG8, F11 PC6, F12 VDDIO2, F13 VSS, G1 PC15, G2 VDD, G3 PF3, G4 PF4, G5 PF5, G6 PG13, G7 PG4, G8 PG3, G9 PG5, G10 PG7, G11 PC7, G12 PG6, G13 PC9, H1 PH0, H2 VSS, H3 NRST, H4 PF10, H5 PG1, H6 PE10, H7 PB11, H8 PD13, H9 PG2, H10 PD15, H11 PD14, H12 VSS, H13 VDD, J1 PH1, J2 PC0, J3 PC1, J4 PC2, J5 PG0, J6 PE9, J7 PE15, J8 PD12, J9 PD11, J10 PD10, J11 DSIHOST_D1P, J12 DSIHOST_D1N, J13 VSSDSI, K1 PC3, K2 VSSA, K3 PA0, K4 PC4, K5 PF15, K6 PE8, K7 PE14, K8 PH4, K9 PD9, K10 PD8, K11 DSIHOST_CKP, K12 DSIHOST_CKN, K13 VSSDSI, L1 VREF+, L2 VDDA, L3 PA5, L4 PA6, L5 PB1, L6 PF14, L7 PE7, L8 PE13, L9 PH5, L10 PB15, L11 DSIHOST_D0P, L12 DSIHOST_D0N, L13 VCAPDSI, M1 PA1, M2 PA3, M3 VSS, M4 PA7, M5 PF11, M6 PF13, M7 VSS, M8 PE12, M9 PH10, M10 PH11, M11 VSS, M12 PB14, M13 VDDDSI, N1 PA2, N2 PA4, N3 VDD, N4 PB0, N5 PB2, N6 PF12, N7 VDD, N8 PE11, N9 PB10, N10 PH8, N11 VDD, N12 PB12, N13 PB13

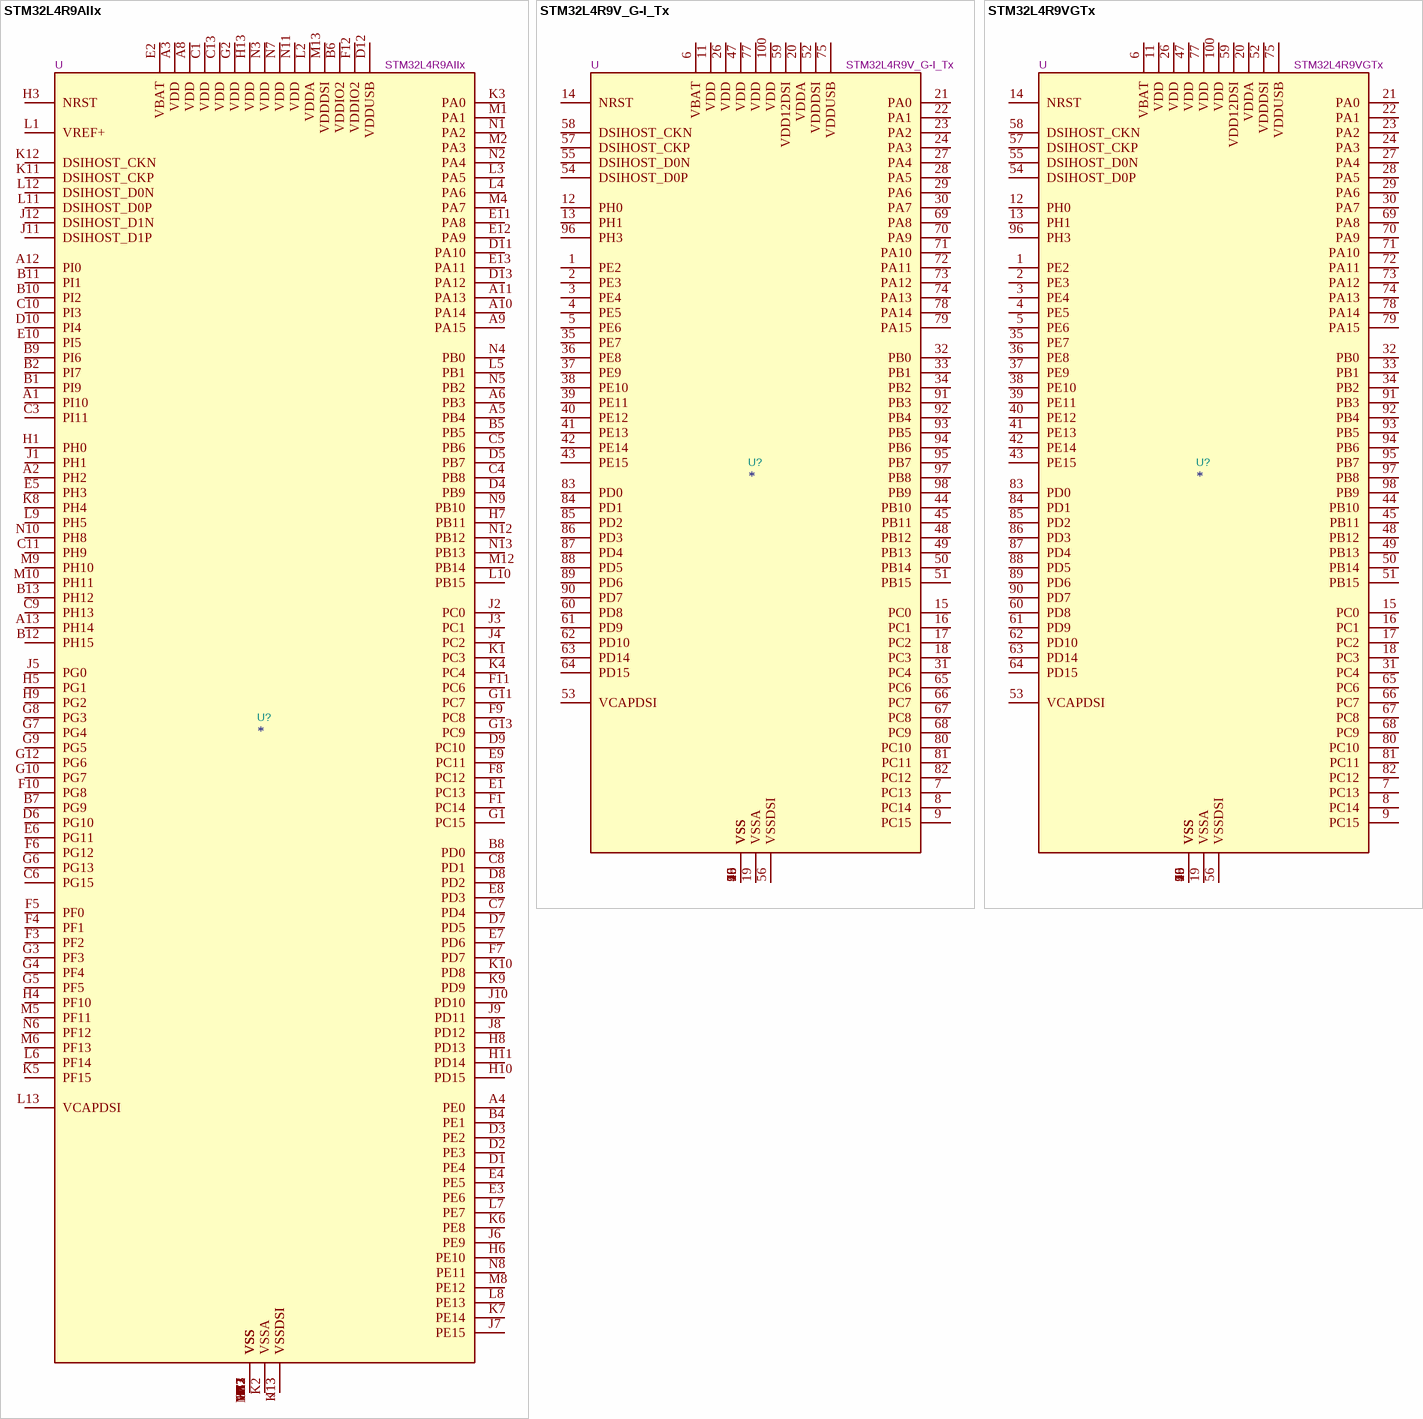
[diagram p23: symbols STM32L4R9AIIx to STM32L4R9VGTx]

## STM32L4R9AIIx
designator U?  value STM32L4R9AIIx  Reference: U
STMicroelectronics Arm Cortex-M4 MCU, 2048KB flash, 640KB RAM, 120 MHz, 1.71-3.6V, 131 GPIO, UFBGA169; ki_keywords: Arm Cortex-M4 STM32L4+ STM32L4R9/S9; ki_fp_filters: UFBGA*7x7mm*Layout13x13*P0.5mm*; Footprint: Package_BGA:UFBGA-169_7x7mm_Layout13x13_P0.5mm; Datasheet: https://www.st.com/resource/en/datasheet/stm32l4r9ai.pdf; Description_: STMicroelectronics Arm Cortex-M4 MCU, 2048KB flash, 640KB RAM, 120 MHz, 1.71-3.6V, 131 GPIO, UFBGA169
pins: A1 PI10, A2 PH2, A3 VDD, A4 PE0, A5 PB4, A6 PB3, A7 VSS, A8 VDD, A9 PA15, A10 PA14, A11 PA13, A12 PI0, A13 PH14, B1 PI9, B2 PI7, B3 VSS, B4 PE1, B5 PB5, B6 VDDIO2, B7 PG9, B8 PD0, B9 PI6, B10 PI2, B11 PI1, B12 PH15, B13 PH12, C1 VDD, C2 VSS, C3 PI11, C4 PB8, C5 PB6, C6 PG15, C7 PD4, C8 PD1, C9 PH13, C10 PI3, C11 PH9, C12 VSS, C13 VDD, D1 PE4, D2 PE3, D3 PE2, D4 PB9, D5 PB7, D6 PG10, D7 PD5, D8 PD2, D9 PC10, D10 PI4, D11 PA10, D12 VDDUSB, D13 PA12, E1 PC13, E2 VBAT, E3 PE6, E4 PE5, E5 PH3, E6 PG11, E7 PD6, E8 PD3, E9 PC11, E10 PI5, E11 PA8, E12 PA9, E13 PA11, F1 PC14, F2 VSS, F3 PF2, F4 PF1, F5 PF0, F6 PG12, F7 PD7, F8 PC12, F9 PC8, F10 PG8, F11 PC6, F12 VDDIO2, F13 VSS, G1 PC15, G2 VDD, G3 PF3, G4 PF4, G5 PF5, G6 PG13, G7 PG4, G8 PG3, G9 PG5, G10 PG7, G11 PC7, G12 PG6, G13 PC9, H1 PH0, H2 VSS, H3 NRST, H4 PF10, H5 PG1, H6 PE10, H7 PB11, H8 PD13, H9 PG2, H10 PD15, H11 PD14, H12 VSS, H13 VDD, J1 PH1, J2 PC0, J3 PC1, J4 PC2, J5 PG0, J6 PE9, J7 PE15, J8 PD12, J9 PD11, J10 PD10, J11 DSIHOST_D1P, J12 DSIHOST_D1N, J13 VSSDSI, K1 PC3, K2 VSSA, K3 PA0, K4 PC4, K5 PF15, K6 PE8, K7 PE14, K8 PH4, K9 PD9, K10 PD8, K11 DSIHOST_CKP, K12 DSIHOST_CKN, K13 VSSDSI, L1 VREF+, L2 VDDA, L3 PA5, L4 PA6, L5 PB1, L6 PF14, L7 PE7, L8 PE13, L9 PH5, L10 PB15, L11 DSIHOST_D0P, L12 DSIHOST_D0N, L13 VCAPDSI, M1 PA1, M2 PA3, M3 VSS, M4 PA7, M5 PF11, M6 PF13, M7 VSS, M8 PE12, M9 PH10, M10 PH11, M11 VSS, M12 PB14, M13 VDDDSI, N1 PA2, N2 PA4, N3 VDD, N4 PB0, N5 PB2, N6 PF12, N7 VDD, N8 PE11, N9 PB10, N10 PH8, N11 VDD, N12 PB12, N13 PB13

## STM32L4R9V_G-I_Tx
designator U?  value STM32L4R9V_G-I_Tx  Reference: U
STMicroelectronics Arm Cortex-M4 MCU, 1024-2048KB flash, 640KB RAM, 120 MHz, 1.71-3.6V, 77 GPIO, LQFP100; ki_keywords: Arm Cortex-M4 STM32L4+ STM32L4R9/S9; ki_fp_filters: LQFP*14x14mm*P0.5mm*; Footprint: Package_QFP:LQFP-100_14x14mm_P0.5mm; Datasheet: https://www.st.com/resource/en/datasheet/stm32l4r9vg.pdf; Description_: STMicroelectronics Arm Cortex-M4 MCU, 1024-2048KB flash, 640KB RAM, 120 MHz, 1.71-3.6V, 77 GPIO, LQFP100
pins: 1 PE2, 2 PE3, 3 PE4, 4 PE5, 5 PE6, 6 VBAT, 7 PC13, 8 PC14, 9 PC15, 10 VSS, 11 VDD, 12 PH0, 13 PH1, 14 NRST, 15 PC0, 16 PC1, 17 PC2, 18 PC3, 19 VSSA, 20 VDDA, 21 PA0, 22 PA1, 23 PA2, 24 PA3, 25 VSS, 26 VDD, 27 PA4, 28 PA5, 29 PA6, 30 PA7, 31 PC4, 32 PB0, 33 PB1, 34 PB2, 35 PE7, 36 PE8, 37 PE9, 38 PE10, 39 PE11, 40 PE12, 41 PE13, 42 PE14, 43 PE15, 44 PB10, 45 PB11, 46 VSS, 47 VDD, 48 PB12, 49 PB13, 50 PB14, 51 PB15, 52 VDDDSI, 53 VCAPDSI, 54 DSIHOST_D0P, 55 DSIHOST_D0N, 56 VSSDSI, 57 DSIHOST_CKP, 58 DSIHOST_CKN, 59 VDD12DSI, 60 PD8, 61 PD9, 62 PD10, 63 PD14, 64 PD15, 65 PC6, 66 PC7, 67 PC8, 68 PC9, 69 PA8, 70 PA9, 71 PA10, 72 PA11, 73 PA12, 74 PA13, 75 VDDUSB, 76 VSS, 77 VDD, 78 PA14, 79 PA15, 80 PC10, 81 PC11, 82 PC12, 83 PD0, 84 PD1, 85 PD2, 86 PD3, 87 PD4, 88 PD5, 89 PD6, 90 PD7, 91 PB3, 92 PB4, 93 PB5, 94 PB6, 95 PB7, 96 PH3, 97 PB8, 98 PB9, 99 VSS, 100 VDD

## STM32L4R9VGTx
designator U?  value STM32L4R9VGTx  Reference: U
STMicroelectronics Arm Cortex-M4 MCU, 1024KB flash, 640KB RAM, 120 MHz, 1.71-3.6V, 77 GPIO, LQFP100; ki_keywords: Arm Cortex-M4 STM32L4+ STM32L4R9/S9; ki_fp_filters: LQFP*14x14mm*P0.5mm*; Footprint: Package_QFP:LQFP-100_14x14mm_P0.5mm; Datasheet: https://www.st.com/resource/en/datasheet/stm32l4r9vg.pdf; Description_: STMicroelectronics Arm Cortex-M4 MCU, 1024KB flash, 640KB RAM, 120 MHz, 1.71-3.6V, 77 GPIO, LQFP100
pins: 1 PE2, 2 PE3, 3 PE4, 4 PE5, 5 PE6, 6 VBAT, 7 PC13, 8 PC14, 9 PC15, 10 VSS, 11 VDD, 12 PH0, 13 PH1, 14 NRST, 15 PC0, 16 PC1, 17 PC2, 18 PC3, 19 VSSA, 20 VDDA, 21 PA0, 22 PA1, 23 PA2, 24 PA3, 25 VSS, 26 VDD, 27 PA4, 28 PA5, 29 PA6, 30 PA7, 31 PC4, 32 PB0, 33 PB1, 34 PB2, 35 PE7, 36 PE8, 37 PE9, 38 PE10, 39 PE11, 40 PE12, 41 PE13, 42 PE14, 43 PE15, 44 PB10, 45 PB11, 46 VSS, 47 VDD, 48 PB12, 49 PB13, 50 PB14, 51 PB15, 52 VDDDSI, 53 VCAPDSI, 54 DSIHOST_D0P, 55 DSIHOST_D0N, 56 VSSDSI, 57 DSIHOST_CKP, 58 DSIHOST_CKN, 59 VDD12DSI, 60 PD8, 61 PD9, 62 PD10, 63 PD14, 64 PD15, 65 PC6, 66 PC7, 67 PC8, 68 PC9, 69 PA8, 70 PA9, 71 PA10, 72 PA11, 73 PA12, 74 PA13, 75 VDDUSB, 76 VSS, 77 VDD, 78 PA14, 79 PA15, 80 PC10, 81 PC11, 82 PC12, 83 PD0, 84 PD1, 85 PD2, 86 PD3, 87 PD4, 88 PD5, 89 PD6, 90 PD7, 91 PB3, 92 PB4, 93 PB5, 94 PB6, 95 PB7, 96 PH3, 97 PB8, 98 PB9, 99 VSS, 100 VDD

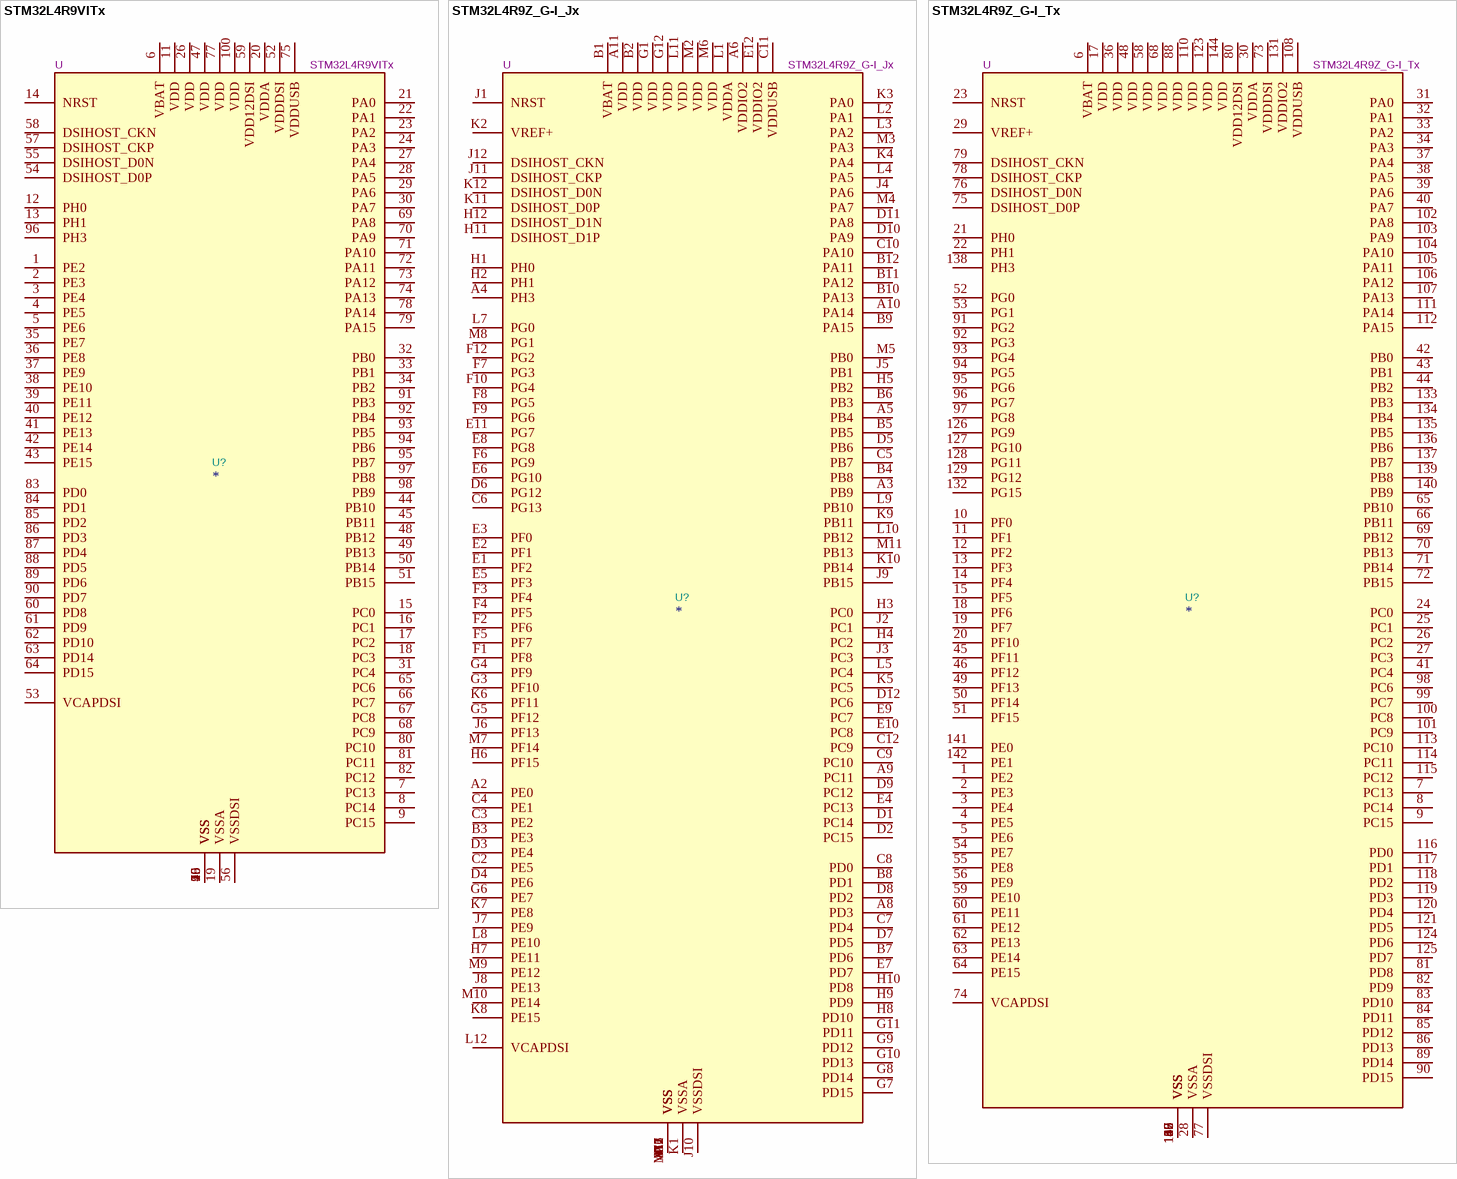
[diagram p24: symbols STM32L4R9VITx to STM32L4R9Z_G-I_Tx]

## STM32L4R9VITx
designator U?  value STM32L4R9VITx  Reference: U
STMicroelectronics Arm Cortex-M4 MCU, 2048KB flash, 640KB RAM, 120 MHz, 1.71-3.6V, 77 GPIO, LQFP100; ki_keywords: Arm Cortex-M4 STM32L4+ STM32L4R9/S9; ki_fp_filters: LQFP*14x14mm*P0.5mm*; Footprint: Package_QFP:LQFP-100_14x14mm_P0.5mm; Datasheet: https://www.st.com/resource/en/datasheet/stm32l4r9vi.pdf; Description_: STMicroelectronics Arm Cortex-M4 MCU, 2048KB flash, 640KB RAM, 120 MHz, 1.71-3.6V, 77 GPIO, LQFP100
pins: 1 PE2, 2 PE3, 3 PE4, 4 PE5, 5 PE6, 6 VBAT, 7 PC13, 8 PC14, 9 PC15, 10 VSS, 11 VDD, 12 PH0, 13 PH1, 14 NRST, 15 PC0, 16 PC1, 17 PC2, 18 PC3, 19 VSSA, 20 VDDA, 21 PA0, 22 PA1, 23 PA2, 24 PA3, 25 VSS, 26 VDD, 27 PA4, 28 PA5, 29 PA6, 30 PA7, 31 PC4, 32 PB0, 33 PB1, 34 PB2, 35 PE7, 36 PE8, 37 PE9, 38 PE10, 39 PE11, 40 PE12, 41 PE13, 42 PE14, 43 PE15, 44 PB10, 45 PB11, 46 VSS, 47 VDD, 48 PB12, 49 PB13, 50 PB14, 51 PB15, 52 VDDDSI, 53 VCAPDSI, 54 DSIHOST_D0P, 55 DSIHOST_D0N, 56 VSSDSI, 57 DSIHOST_CKP, 58 DSIHOST_CKN, 59 VDD12DSI, 60 PD8, 61 PD9, 62 PD10, 63 PD14, 64 PD15, 65 PC6, 66 PC7, 67 PC8, 68 PC9, 69 PA8, 70 PA9, 71 PA10, 72 PA11, 73 PA12, 74 PA13, 75 VDDUSB, 76 VSS, 77 VDD, 78 PA14, 79 PA15, 80 PC10, 81 PC11, 82 PC12, 83 PD0, 84 PD1, 85 PD2, 86 PD3, 87 PD4, 88 PD5, 89 PD6, 90 PD7, 91 PB3, 92 PB4, 93 PB5, 94 PB6, 95 PB7, 96 PH3, 97 PB8, 98 PB9, 99 VSS, 100 VDD

## STM32L4R9Z_G-I_Jx
designator U?  value STM32L4R9Z_G-I_Jx  Reference: U
STMicroelectronics Arm Cortex-M4 MCU, 1024-2048KB flash, 640KB RAM, 120 MHz, 1.71-3.6V, 112 GPIO, UFBGA144; ki_keywords: Arm Cortex-M4 STM32L4+ STM32L4R9/S9; ki_fp_filters: UFBGA*10x10mm*Layout12x12*P0.8mm*; Footprint: Package_BGA:UFBGA-144_10x10mm_Layout12x12_P0.8mm; Datasheet: https://www.st.com/resource/en/datasheet/stm32l4r9zg.pdf; Description_: STMicroelectronics Arm Cortex-M4 MCU, 1024-2048KB flash, 640KB RAM, 120 MHz, 1.71-3.6V, 112 GPIO, UFBGA144
pins: A1 VSS, A2 PE0, A3 PB9, A4 PH3, A5 PB4, A6 VDDIO2, A7 VSS, A8 PD3, A9 PC11, A10 PA14, A11 VDD, A12 VSS, B1 VBAT, B2 VDD, B3 PE3, B4 PB8, B5 PB5, B6 PB3, B7 PD6, B8 PD1, B9 PA15, B10 PA13, B11 PA12, B12 PA11, C1 VSS, C2 PE5, C3 PE2, C4 PE1, C5 PB7, C6 PG13, C7 PD4, C8 PD0, C9 PC10, C10 PA10, C11 VDDUSB, C12 PC9, D1 PC14, D2 PC15, D3 PE4, D4 PE6, D5 PB6, D6 PG12, D7 PD5, D8 PD2, D9 PC12, D10 PA9, D11 PA8, D12 PC6, E1 PF2, E2 PF1, E3 PF0, E4 PC13, E5 PF3, E6 PG10, E7 PD7, E8 PG8, E9 PC7, E10 PC8, E11 PG7, E12 VDDIO2, F1 PF8, F2 PF6, F3 PF4, F4 PF5, F5 PF7, F6 PG9, F7 PG3, F8 PG5, F9 PG6, F10 PG4, F11 VSS, F12 PG2, G1 VDD, G2 VSS, G3 PF10, G4 PF9, G5 PF12, G6 PE7, G7 PD15, G8 PD14, G9 PD12, G10 PD13, G11 PD11, G12 VDD, H1 PH0, H2 PH1, H3 PC0, H4 PC2, H5 PB2, H6 PF15, H7 PE11, H8 PD10, H9 PD9, H10 PD8, H11 DSIHOST_D1P, H12 DSIHOST_D1N, J1 NRST, J2 PC1, J3 PC3, J4 PA6, J5 PB1, J6 PF13, J7 PE9, J8 PE13, J9 PB15, J10 VSSDSI, J11 DSIHOST_CKP, J12 DSIHOST_CKN, K1 VSSA, K2 VREF+, K3 PA0, K4 PA4, K5 PC5, K6 PF11, K7 PE8, K8 PE15, K9 PB11, K10 PB14, K11 DSIHOST_D0P, K12 DSIHOST_D0N, L1 VDDA, L2 PA1, L3 PA2, L4 PA5, L5 PC4, L6 VSS, L7 PG0, L8 PE10, L9 PB10, L10 PB12, L11 VDD, L12 VCAPDSI, M1 VSS, M2 VDD, M3 PA3, M4 PA7, M5 PB0, M6 VDD, M7 PF14, M8 PG1, M9 PE12, M10 PE14, M11 PB13, M12 VSS

## STM32L4R9Z_G-I_Tx
designator U?  value STM32L4R9Z_G-I_Tx  Reference: U
STMicroelectronics Arm Cortex-M4 MCU, 1024-2048KB flash, 640KB RAM, 120 MHz, 1.71-3.6V, 110 GPIO, LQFP144; ki_keywords: Arm Cortex-M4 STM32L4+ STM32L4R9/S9; ki_fp_filters: LQFP*20x20mm*P0.5mm*; Footprint: Package_QFP:LQFP-144_20x20mm_P0.5mm; Datasheet: https://www.st.com/resource/en/datasheet/stm32l4r9zg.pdf; Description_: STMicroelectronics Arm Cortex-M4 MCU, 1024-2048KB flash, 640KB RAM, 120 MHz, 1.71-3.6V, 110 GPIO, LQFP144
pins: 1 PE2, 2 PE3, 3 PE4, 4 PE5, 5 PE6, 6 VBAT, 7 PC13, 8 PC14, 9 PC15, 10 PF0, 11 PF1, 12 PF2, 13 PF3, 14 PF4, 15 PF5, 16 VSS, 17 VDD, 18 PF6, 19 PF7, 20 PF10, 21 PH0, 22 PH1, 23 NRST, 24 PC0, 25 PC1, 26 PC2, 27 PC3, 28 VSSA, 29 VREF+, 30 VDDA, 31 PA0, 32 PA1, 33 PA2, 34 PA3, 35 VSS, 36 VDD, 37 PA4, 38 PA5, 39 PA6, 40 PA7, 41 PC4, 42 PB0, 43 PB1, 44 PB2, 45 PF11, 46 PF12, 47 VSS, 48 VDD, 49 PF13, 50 PF14, 51 PF15, 52 PG0, 53 PG1, 54 PE7, 55 PE8, 56 PE9, 57 VSS, 58 VDD, 59 PE10, 60 PE11, 61 PE12, 62 PE13, 63 PE14, 64 PE15, 65 PB10, 66 PB11, 67 VSS, 68 VDD, 69 PB12, 70 PB13, 71 PB14, 72 PB15, 73 VDDDSI, 74 VCAPDSI, 75 DSIHOST_D0P, 76 DSIHOST_D0N, 77 VSSDSI, 78 DSIHOST_CKP, 79 DSIHOST_CKN, 80 VDD12DSI, 81 PD8, 82 PD9, 83 PD10, 84 PD11, 85 PD12, 86 PD13, 87 VSS, 88 VDD, 89 PD14, 90 PD15, 91 PG2, 92 PG3, 93 PG4, 94 PG5, 95 PG6, 96 PG7, 97 PG8, 98 PC6, 99 PC7, 100 PC8, 101 PC9, 102 PA8, 103 PA9, 104 PA10, 105 PA11, 106 PA12, 107 PA13, 108 VDDUSB, 109 VSS, 110 VDD, 111 PA14, 112 PA15, 113 PC10, 114 PC11, 115 PC12, 116 PD0, 117 PD1, 118 PD2, 119 PD3, 120 PD4, 121 PD5, 122 VSS, 123 VDD, 124 PD6, 125 PD7, 126 PG9, 127 PG10, 128 PG11, 129 PG12, 130 VSS, 131 VDDIO2, 132 PG15, 133 PB3, 134 PB4, 135 PB5, 136 PB6, 137 PB7, 138 PH3, 139 PB8, 140 PB9, 141 PE0, 142 PE1, 143 VSS, 144 VDD

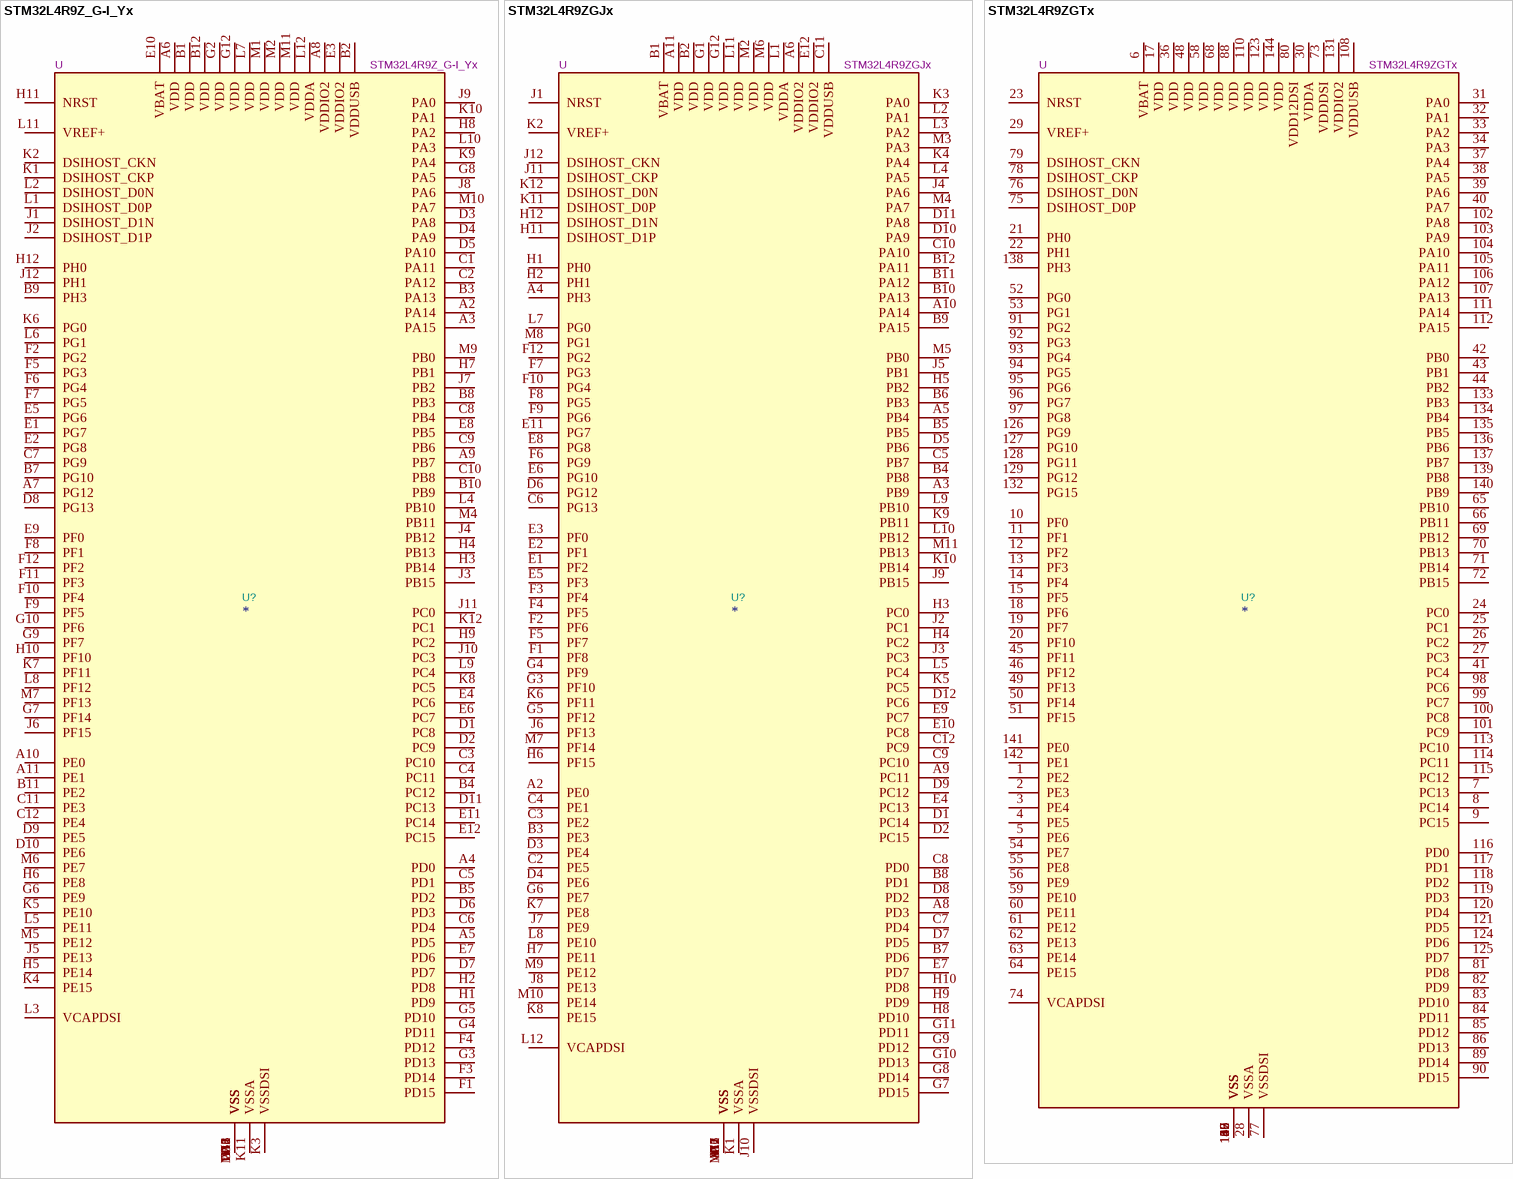
[diagram p25: symbols STM32L4R9Z_G-I_Yx to STM32L4R9ZGTx]

## STM32L4R9Z_G-I_Yx
designator U?  value STM32L4R9Z_G-I_Yx  Reference: U
STMicroelectronics Arm Cortex-M4 MCU, 1024-2048KB flash, 640KB RAM, 120 MHz, 1.71-3.6V, 110 GPIO, WLCSP144; ki_keywords: Arm Cortex-M4 STM32L4+ STM32L4R9/S9; ki_fp_filters: ST*WLCSP*Die470*; Footprint: Package_CSP:ST_WLCSP-144_Die470; Datasheet: https://www.st.com/resource/en/datasheet/stm32l4r9zg.pdf; Description_: STMicroelectronics Arm Cortex-M4 MCU, 1024-2048KB flash, 640KB RAM, 120 MHz, 1.71-3.6V, 110 GPIO, WLCSP144
pins: A1 VSS, A2 PA14, A3 PA15, A4 PD0, A5 PD5, A6 VDD, A7 PG12, A8 VDDIO2, A9 PB7, A10 PE0, A11 PE1, A12 VSS, B1 VDD, B2 VDDUSB, B3 PA13, B4 PC12, B5 PD2, B6 VSS, B7 PG10, B8 PB3, B9 PH3, B10 PB9, B11 PE2, B12 VDD, C1 PA11, C2 PA12, C3 PC10, C4 PC11, C5 PD1, C6 PD4, C7 PG9, C8 PB4, C9 PB6, C10 PB8, C11 PE3, C12 PE4, D1 PC8, D2 PC9, D3 PA8, D4 PA9, D5 PA10, D6 PD3, D7 PD7, D8 PG13, D9 PE5, D10 PE6, D11 PC13, D12 VSS, E1 PG7, E2 PG8, E3 VDDIO2, E4 PC6, E5 PG6, E6 PC7, E7 PD6, E8 PB5, E9 PF0, E10 VBAT, E11 PC14, E12 PC15, F1 PD15, F2 PG2, F3 PD14, F4 PD12, F5 PG3, F6 PG4, F7 PG5, F8 PF1, F9 PF5, F10 PF4, F11 PF3, F12 PF2, G1 VSS, G2 VDD, G3 PD13, G4 PD11, G5 PD10, G6 PE9, G7 PF14, G8 PA5, G9 PF7, G10 PF6, G11 VSS, G12 VDD, H1 PD9, H2 PD8, H3 PB14, H4 PB13, H5 PE14, H6 PE8, H7 PB1, H8 PA2, H9 PC2, H10 PF10, H11 NRST, H12 PH0, J1 DSIHOST_D1N, J2 DSIHOST_D1P, J3 PB15, J4 PB12, J5 PE13, J6 PF15, J7 PB2, J8 PA6, J9 PA0, J10 PC3, J11 PC0, J12 PH1, K1 DSIHOST_CKP, K2 DSIHOST_CKN, K3 VSSDSI, K4 PE15, K5 PE10, K6 PG0, K7 PF11, K8 PC5, K9 PA4, K10 PA1, K11 VSSA, K12 PC1, L1 DSIHOST_D0P, L2 DSIHOST_D0N, L3 VCAPDSI, L4 PB10, L5 PE11, L6 PG1, L7 VDD, L8 PF12, L9 PC4, L10 PA3, L11 VREF+, L12 VDDA, M1 VDD, M2 VDD, M3 VSS, M4 PB11, M5 PE12, M6 PE7, M7 PF13, M8 VSS, M9 PB0, M10 PA7, M11 VDD, M12 VSS

## STM32L4R9ZGJx
designator U?  value STM32L4R9ZGJx  Reference: U
STMicroelectronics Arm Cortex-M4 MCU, 1024KB flash, 640KB RAM, 120 MHz, 1.71-3.6V, 112 GPIO, UFBGA144; ki_keywords: Arm Cortex-M4 STM32L4+ STM32L4R9/S9; ki_fp_filters: UFBGA*10x10mm*Layout12x12*P0.8mm*; Footprint: Package_BGA:UFBGA-144_10x10mm_Layout12x12_P0.8mm; Datasheet: https://www.st.com/resource/en/datasheet/stm32l4r9zg.pdf; Description_: STMicroelectronics Arm Cortex-M4 MCU, 1024KB flash, 640KB RAM, 120 MHz, 1.71-3.6V, 112 GPIO, UFBGA144
pins: A1 VSS, A2 PE0, A3 PB9, A4 PH3, A5 PB4, A6 VDDIO2, A7 VSS, A8 PD3, A9 PC11, A10 PA14, A11 VDD, A12 VSS, B1 VBAT, B2 VDD, B3 PE3, B4 PB8, B5 PB5, B6 PB3, B7 PD6, B8 PD1, B9 PA15, B10 PA13, B11 PA12, B12 PA11, C1 VSS, C2 PE5, C3 PE2, C4 PE1, C5 PB7, C6 PG13, C7 PD4, C8 PD0, C9 PC10, C10 PA10, C11 VDDUSB, C12 PC9, D1 PC14, D2 PC15, D3 PE4, D4 PE6, D5 PB6, D6 PG12, D7 PD5, D8 PD2, D9 PC12, D10 PA9, D11 PA8, D12 PC6, E1 PF2, E2 PF1, E3 PF0, E4 PC13, E5 PF3, E6 PG10, E7 PD7, E8 PG8, E9 PC7, E10 PC8, E11 PG7, E12 VDDIO2, F1 PF8, F2 PF6, F3 PF4, F4 PF5, F5 PF7, F6 PG9, F7 PG3, F8 PG5, F9 PG6, F10 PG4, F11 VSS, F12 PG2, G1 VDD, G2 VSS, G3 PF10, G4 PF9, G5 PF12, G6 PE7, G7 PD15, G8 PD14, G9 PD12, G10 PD13, G11 PD11, G12 VDD, H1 PH0, H2 PH1, H3 PC0, H4 PC2, H5 PB2, H6 PF15, H7 PE11, H8 PD10, H9 PD9, H10 PD8, H11 DSIHOST_D1P, H12 DSIHOST_D1N, J1 NRST, J2 PC1, J3 PC3, J4 PA6, J5 PB1, J6 PF13, J7 PE9, J8 PE13, J9 PB15, J10 VSSDSI, J11 DSIHOST_CKP, J12 DSIHOST_CKN, K1 VSSA, K2 VREF+, K3 PA0, K4 PA4, K5 PC5, K6 PF11, K7 PE8, K8 PE15, K9 PB11, K10 PB14, K11 DSIHOST_D0P, K12 DSIHOST_D0N, L1 VDDA, L2 PA1, L3 PA2, L4 PA5, L5 PC4, L6 VSS, L7 PG0, L8 PE10, L9 PB10, L10 PB12, L11 VDD, L12 VCAPDSI, M1 VSS, M2 VDD, M3 PA3, M4 PA7, M5 PB0, M6 VDD, M7 PF14, M8 PG1, M9 PE12, M10 PE14, M11 PB13, M12 VSS

## STM32L4R9ZGTx
designator U?  value STM32L4R9ZGTx  Reference: U
STMicroelectronics Arm Cortex-M4 MCU, 1024KB flash, 640KB RAM, 120 MHz, 1.71-3.6V, 110 GPIO, LQFP144; ki_keywords: Arm Cortex-M4 STM32L4+ STM32L4R9/S9; ki_fp_filters: LQFP*20x20mm*P0.5mm*; Footprint: Package_QFP:LQFP-144_20x20mm_P0.5mm; Datasheet: https://www.st.com/resource/en/datasheet/stm32l4r9zg.pdf; Description_: STMicroelectronics Arm Cortex-M4 MCU, 1024KB flash, 640KB RAM, 120 MHz, 1.71-3.6V, 110 GPIO, LQFP144
pins: 1 PE2, 2 PE3, 3 PE4, 4 PE5, 5 PE6, 6 VBAT, 7 PC13, 8 PC14, 9 PC15, 10 PF0, 11 PF1, 12 PF2, 13 PF3, 14 PF4, 15 PF5, 16 VSS, 17 VDD, 18 PF6, 19 PF7, 20 PF10, 21 PH0, 22 PH1, 23 NRST, 24 PC0, 25 PC1, 26 PC2, 27 PC3, 28 VSSA, 29 VREF+, 30 VDDA, 31 PA0, 32 PA1, 33 PA2, 34 PA3, 35 VSS, 36 VDD, 37 PA4, 38 PA5, 39 PA6, 40 PA7, 41 PC4, 42 PB0, 43 PB1, 44 PB2, 45 PF11, 46 PF12, 47 VSS, 48 VDD, 49 PF13, 50 PF14, 51 PF15, 52 PG0, 53 PG1, 54 PE7, 55 PE8, 56 PE9, 57 VSS, 58 VDD, 59 PE10, 60 PE11, 61 PE12, 62 PE13, 63 PE14, 64 PE15, 65 PB10, 66 PB11, 67 VSS, 68 VDD, 69 PB12, 70 PB13, 71 PB14, 72 PB15, 73 VDDDSI, 74 VCAPDSI, 75 DSIHOST_D0P, 76 DSIHOST_D0N, 77 VSSDSI, 78 DSIHOST_CKP, 79 DSIHOST_CKN, 80 VDD12DSI, 81 PD8, 82 PD9, 83 PD10, 84 PD11, 85 PD12, 86 PD13, 87 VSS, 88 VDD, 89 PD14, 90 PD15, 91 PG2, 92 PG3, 93 PG4, 94 PG5, 95 PG6, 96 PG7, 97 PG8, 98 PC6, 99 PC7, 100 PC8, 101 PC9, 102 PA8, 103 PA9, 104 PA10, 105 PA11, 106 PA12, 107 PA13, 108 VDDUSB, 109 VSS, 110 VDD, 111 PA14, 112 PA15, 113 PC10, 114 PC11, 115 PC12, 116 PD0, 117 PD1, 118 PD2, 119 PD3, 120 PD4, 121 PD5, 122 VSS, 123 VDD, 124 PD6, 125 PD7, 126 PG9, 127 PG10, 128 PG11, 129 PG12, 130 VSS, 131 VDDIO2, 132 PG15, 133 PB3, 134 PB4, 135 PB5, 136 PB6, 137 PB7, 138 PH3, 139 PB8, 140 PB9, 141 PE0, 142 PE1, 143 VSS, 144 VDD

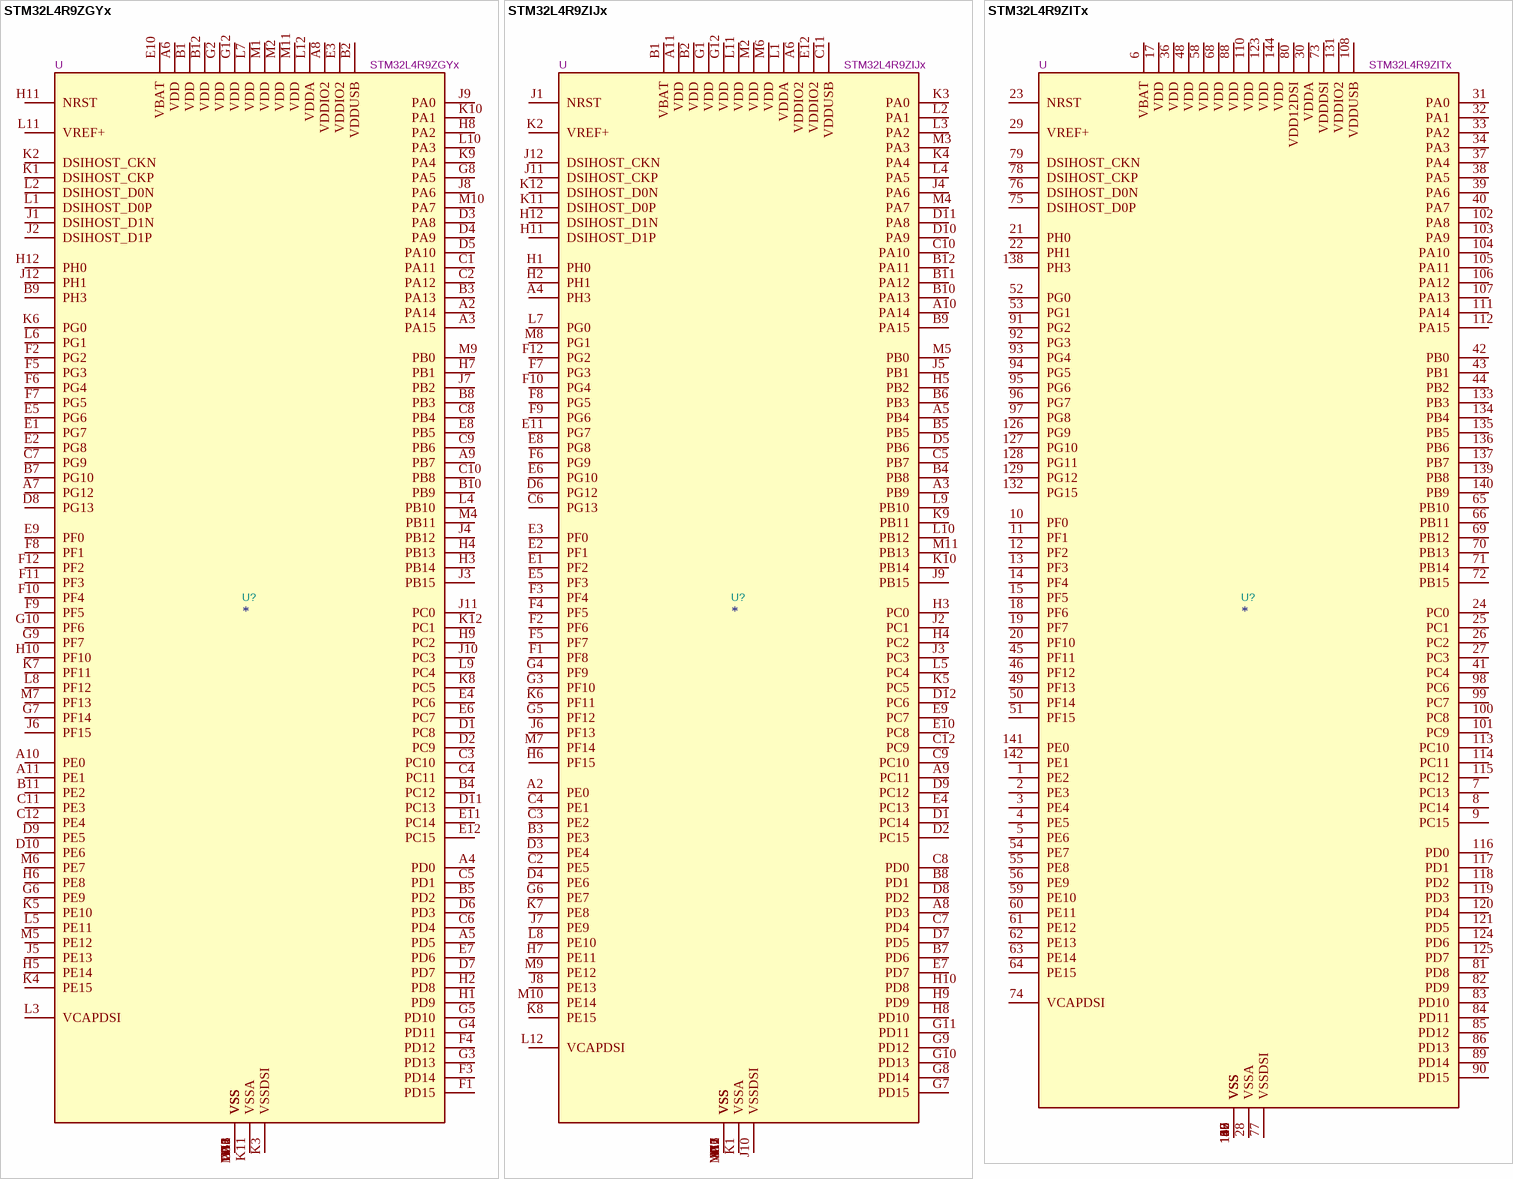
[diagram p26: symbols STM32L4R9ZGYx to STM32L4R9ZITx]

## STM32L4R9ZGYx
designator U?  value STM32L4R9ZGYx  Reference: U
STMicroelectronics Arm Cortex-M4 MCU, 1024KB flash, 640KB RAM, 120 MHz, 1.71-3.6V, 110 GPIO, WLCSP144; ki_keywords: Arm Cortex-M4 STM32L4+ STM32L4R9/S9; ki_fp_filters: ST*WLCSP*Die470*; Footprint: Package_CSP:ST_WLCSP-144_Die470; Datasheet: https://www.st.com/resource/en/datasheet/stm32l4r9zg.pdf; Description_: STMicroelectronics Arm Cortex-M4 MCU, 1024KB flash, 640KB RAM, 120 MHz, 1.71-3.6V, 110 GPIO, WLCSP144
pins: A1 VSS, A2 PA14, A3 PA15, A4 PD0, A5 PD5, A6 VDD, A7 PG12, A8 VDDIO2, A9 PB7, A10 PE0, A11 PE1, A12 VSS, B1 VDD, B2 VDDUSB, B3 PA13, B4 PC12, B5 PD2, B6 VSS, B7 PG10, B8 PB3, B9 PH3, B10 PB9, B11 PE2, B12 VDD, C1 PA11, C2 PA12, C3 PC10, C4 PC11, C5 PD1, C6 PD4, C7 PG9, C8 PB4, C9 PB6, C10 PB8, C11 PE3, C12 PE4, D1 PC8, D2 PC9, D3 PA8, D4 PA9, D5 PA10, D6 PD3, D7 PD7, D8 PG13, D9 PE5, D10 PE6, D11 PC13, D12 VSS, E1 PG7, E2 PG8, E3 VDDIO2, E4 PC6, E5 PG6, E6 PC7, E7 PD6, E8 PB5, E9 PF0, E10 VBAT, E11 PC14, E12 PC15, F1 PD15, F2 PG2, F3 PD14, F4 PD12, F5 PG3, F6 PG4, F7 PG5, F8 PF1, F9 PF5, F10 PF4, F11 PF3, F12 PF2, G1 VSS, G2 VDD, G3 PD13, G4 PD11, G5 PD10, G6 PE9, G7 PF14, G8 PA5, G9 PF7, G10 PF6, G11 VSS, G12 VDD, H1 PD9, H2 PD8, H3 PB14, H4 PB13, H5 PE14, H6 PE8, H7 PB1, H8 PA2, H9 PC2, H10 PF10, H11 NRST, H12 PH0, J1 DSIHOST_D1N, J2 DSIHOST_D1P, J3 PB15, J4 PB12, J5 PE13, J6 PF15, J7 PB2, J8 PA6, J9 PA0, J10 PC3, J11 PC0, J12 PH1, K1 DSIHOST_CKP, K2 DSIHOST_CKN, K3 VSSDSI, K4 PE15, K5 PE10, K6 PG0, K7 PF11, K8 PC5, K9 PA4, K10 PA1, K11 VSSA, K12 PC1, L1 DSIHOST_D0P, L2 DSIHOST_D0N, L3 VCAPDSI, L4 PB10, L5 PE11, L6 PG1, L7 VDD, L8 PF12, L9 PC4, L10 PA3, L11 VREF+, L12 VDDA, M1 VDD, M2 VDD, M3 VSS, M4 PB11, M5 PE12, M6 PE7, M7 PF13, M8 VSS, M9 PB0, M10 PA7, M11 VDD, M12 VSS

## STM32L4R9ZIJx
designator U?  value STM32L4R9ZIJx  Reference: U
STMicroelectronics Arm Cortex-M4 MCU, 2048KB flash, 640KB RAM, 120 MHz, 1.71-3.6V, 112 GPIO, UFBGA144; ki_keywords: Arm Cortex-M4 STM32L4+ STM32L4R9/S9; ki_fp_filters: UFBGA*10x10mm*Layout12x12*P0.8mm*; Footprint: Package_BGA:UFBGA-144_10x10mm_Layout12x12_P0.8mm; Datasheet: https://www.st.com/resource/en/datasheet/stm32l4r9zi.pdf; Description_: STMicroelectronics Arm Cortex-M4 MCU, 2048KB flash, 640KB RAM, 120 MHz, 1.71-3.6V, 112 GPIO, UFBGA144
pins: A1 VSS, A2 PE0, A3 PB9, A4 PH3, A5 PB4, A6 VDDIO2, A7 VSS, A8 PD3, A9 PC11, A10 PA14, A11 VDD, A12 VSS, B1 VBAT, B2 VDD, B3 PE3, B4 PB8, B5 PB5, B6 PB3, B7 PD6, B8 PD1, B9 PA15, B10 PA13, B11 PA12, B12 PA11, C1 VSS, C2 PE5, C3 PE2, C4 PE1, C5 PB7, C6 PG13, C7 PD4, C8 PD0, C9 PC10, C10 PA10, C11 VDDUSB, C12 PC9, D1 PC14, D2 PC15, D3 PE4, D4 PE6, D5 PB6, D6 PG12, D7 PD5, D8 PD2, D9 PC12, D10 PA9, D11 PA8, D12 PC6, E1 PF2, E2 PF1, E3 PF0, E4 PC13, E5 PF3, E6 PG10, E7 PD7, E8 PG8, E9 PC7, E10 PC8, E11 PG7, E12 VDDIO2, F1 PF8, F2 PF6, F3 PF4, F4 PF5, F5 PF7, F6 PG9, F7 PG3, F8 PG5, F9 PG6, F10 PG4, F11 VSS, F12 PG2, G1 VDD, G2 VSS, G3 PF10, G4 PF9, G5 PF12, G6 PE7, G7 PD15, G8 PD14, G9 PD12, G10 PD13, G11 PD11, G12 VDD, H1 PH0, H2 PH1, H3 PC0, H4 PC2, H5 PB2, H6 PF15, H7 PE11, H8 PD10, H9 PD9, H10 PD8, H11 DSIHOST_D1P, H12 DSIHOST_D1N, J1 NRST, J2 PC1, J3 PC3, J4 PA6, J5 PB1, J6 PF13, J7 PE9, J8 PE13, J9 PB15, J10 VSSDSI, J11 DSIHOST_CKP, J12 DSIHOST_CKN, K1 VSSA, K2 VREF+, K3 PA0, K4 PA4, K5 PC5, K6 PF11, K7 PE8, K8 PE15, K9 PB11, K10 PB14, K11 DSIHOST_D0P, K12 DSIHOST_D0N, L1 VDDA, L2 PA1, L3 PA2, L4 PA5, L5 PC4, L6 VSS, L7 PG0, L8 PE10, L9 PB10, L10 PB12, L11 VDD, L12 VCAPDSI, M1 VSS, M2 VDD, M3 PA3, M4 PA7, M5 PB0, M6 VDD, M7 PF14, M8 PG1, M9 PE12, M10 PE14, M11 PB13, M12 VSS